# Altium schematic symbol library MCU_ST_STM32H7.SchLib: 225 symbols (part 6 of 9)
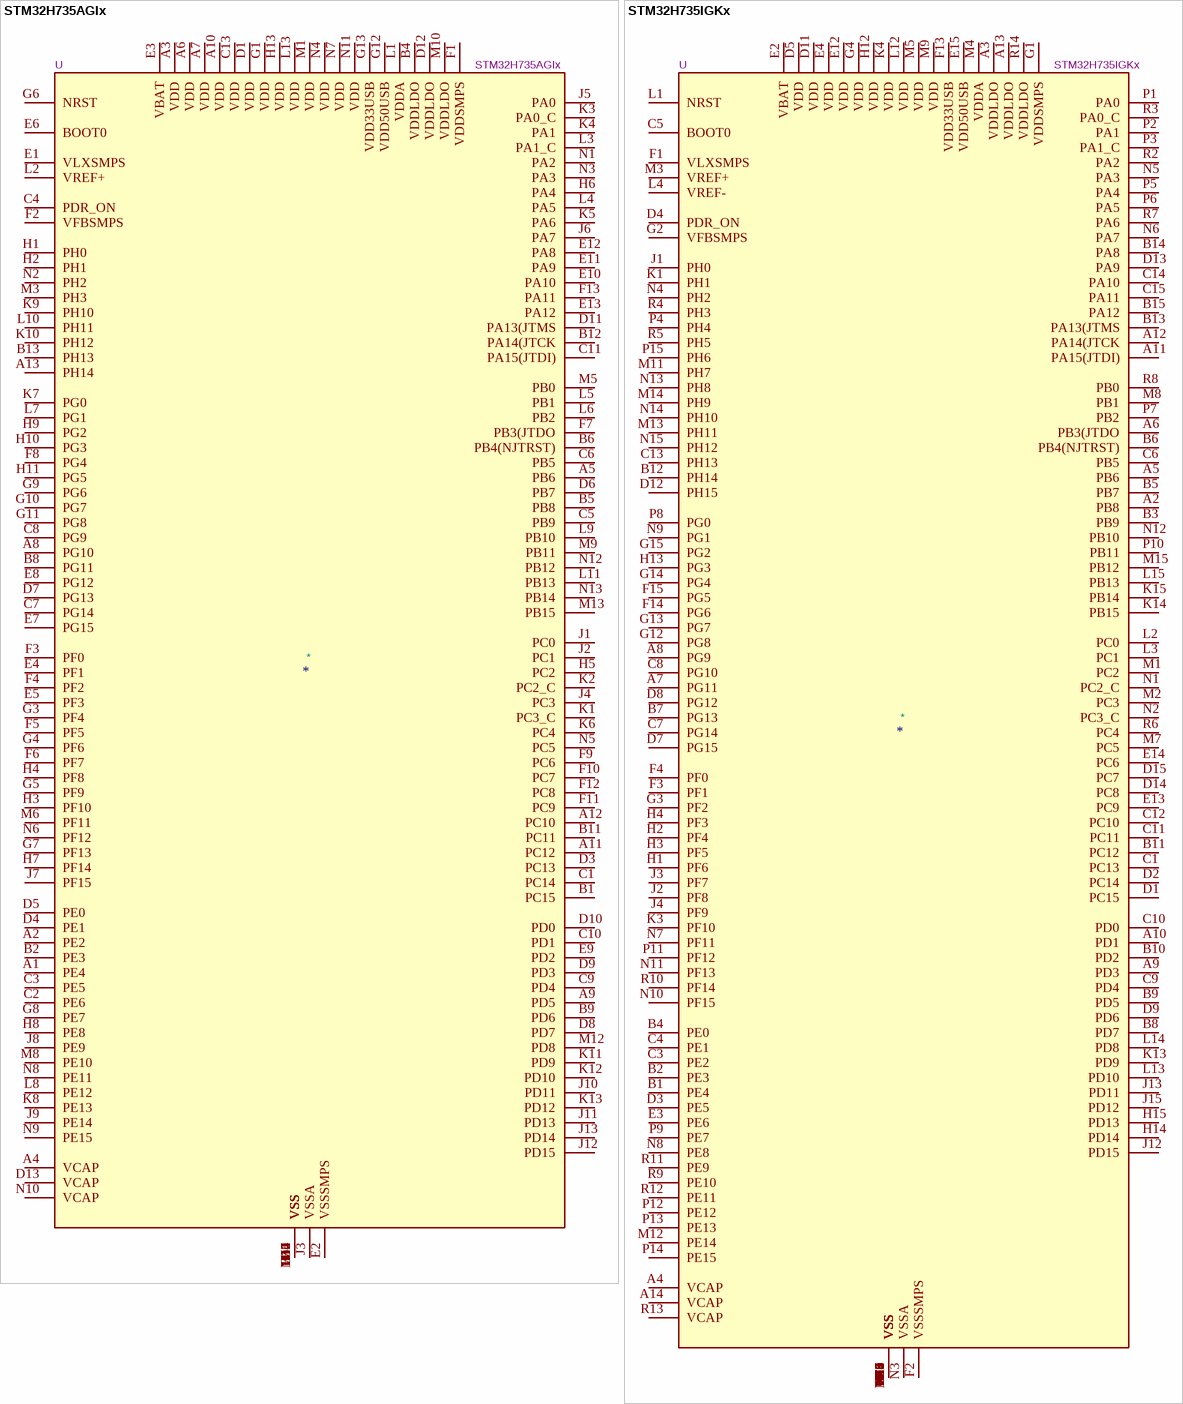
[diagram p92: symbols STM32H735AGIx to STM32H735IGKx]

## STM32H735IGKx
designator *  value STM32H735IGKx  Reference: U
STMicroelectronics Arm Cortex-M7 MCU, 1024KB flash, 564KB RAM, 550 MHz, 1.62-3.6V, 132 GPIO, UFBGA176; ki_keywords: Arm Cortex-M7 STM32H7 STM32H725/735; ki_fp_filters: UFBGA*10x10mm*Layout15x15*P0.65mm*; Footprint: Package_BGA:UFBGA-201_10x10mm_Layout15x15_P0.65mm; Datasheet: https://www.st.com/resource/en/datasheet/stm32h735ig.pdf; Description_: STMicroelectronics Arm Cortex-M7 MCU, 1024KB flash, 564KB RAM, 550 MHz, 1.62-3.6V, 132 GPIO, UFBGA176
pins: A1 VSS, A2 PB8, A3 VDDLDO, A4 VCAP, A5 PB6, A6 PB3(JTDO, A7 PG11, A8 PG9, A9 PD3, A10 PD1, A11 PA15(JTDI), A12 PA14(JTCK, A13 VDDLDO, A14 VCAP, A15 VSS, B1 PE4, B2 PE3, B3 PB9, B4 PE0, B5 PB7, B6 PB4(NJTRST), B7 PG13, B8 PD7, B9 PD5, B10 PD2, B11 PC12, B12 PH14, B13 PA13(JTMS, B14 PA8, B15 PA12, C1 PC13, C2 VSS, C3 PE2, C4 PE1, C5 BOOT0, C6 PB5, C7 PG14, C8 PG10, C9 PD4, C10 PD0, C11 PC11, C12 PC10, C13 PH13, C14 PA10, C15 PA11, D1 PC15, D2 PC14, D3 PE5, D4 PDR_ON, D5 VDD, D6 VSS, D7 PG15, D8 PG12, D9 PD6, D10 VSS, D11 VDD, D12 PH15, D13 PA9, D14 PC8, D15 PC7, E1 VSS, E2 VBAT, E3 PE6, E4 VDD, E12 VDD, E13 PC9, E14 PC6, E15 VDD50USB, F1 VLXSMPS, F2 VSSSMPS, F3 PF1, F4 PF0, F6 VSS, F7 VSS, F8 VSS, F9 VSS, F10 VSS, F12 VSS, F13 VDD33USB, F14 PG6, F15 PG5, G1 VDDSMPS, G2 VFBSMPS, G3 PF2, G4 VDD, G6 VSS, G7 VSS, G8 VSS, G9 VSS, G10 VSS, G12 PG8, G13 PG7, G14 PG4, G15 PG2, H1 PF6, H2 PF4, H3 PF5, H4 PF3, H6 VSS, H7 VSS, H8 VSS, H9 VSS, H10 VSS, H12 VDD, H13 PG3, H14 PD14, H15 PD13, J1 PH0, J2 PF8, J3 PF7, J4 PF9, J6 VSS, J7 VSS, J8 VSS, J9 VSS, J10 VSS, J12 PD15, J13 PD11, J14 VSS, J15 PD12, K1 PH1, K2 VSS, K3 PF10, K4 VDD, K6 VSS, K7 VSS, K8 VSS, K9 VSS, K10 VSS, K12 VSS, K13 PD9, K14 PB15, K15 PB14, L1 NRST, L2 PC0, L3 PC1, L4 VREF-, L12 VDD, L13 PD10, L14 PD8, L15 PB13, M1 PC2, M2 PC3, M3 VREF+, M4 VDDA, M5 VDD, M6 VSS, M7 PC5, M8 PB1, M9 VDD, M10 VSS, M11 PH7, M12 PE14, M13 PH11, M14 PH9, M15 PB12, N1 PC2_C, N2 PC3_C, N3 VSSA, N4 PH2, N5 PA3, N6 PA7, N7 PF11, N8 PE8, N9 PG1, N10 PF15, N11 PF13, N12 PB10, N13 PH8, N14 PH10, N15 PH12, P1 PA0, P2 PA1, P3 PA1_C, P4 PH4, P5 PA4, P6 PA5, P7 PB2, P8 PG0, P9 PE7, P10 PB11, P11 PF12, P12 PE12, P13 PE13, P14 PE15, P15 PH6, R1 VSS, R2 PA2, R3 PA0_C, R4 PH3, R5 PH5, R6 PC4, R7 PA6, R8 PB0, R9 PE10, R10 PF14, R11 PE9, R12 PE11, R13 VCAP, R14 VDDLDO, R15 VSS

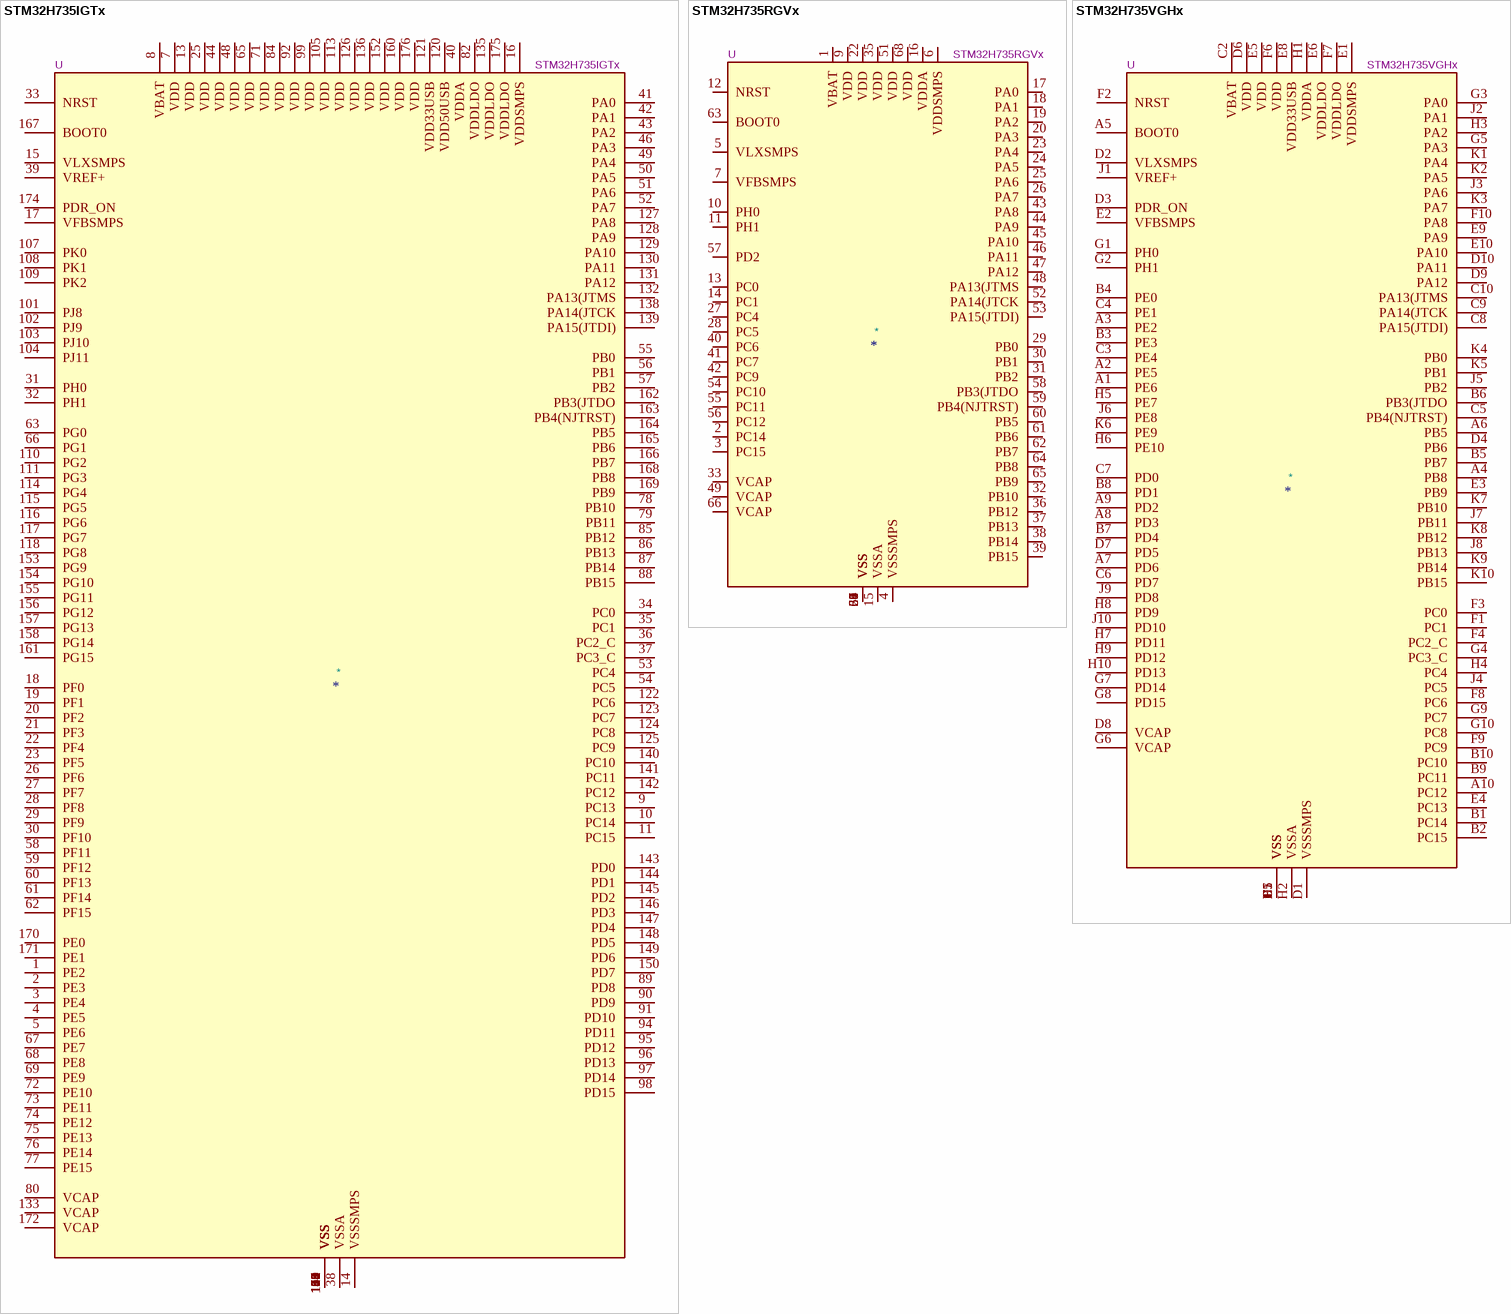
[diagram p53: symbols STM32H735IGTx to STM32H735VGHx]

## STM32H735IGTx
designator *  value STM32H735IGTx  Reference: U
STMicroelectronics Arm Cortex-M7 MCU, 1024KB flash, 564KB RAM, 550 MHz, 1.62-3.6V, 121 GPIO, LQFP176; ki_keywords: Arm Cortex-M7 STM32H7 STM32H725/735; ki_fp_filters: LQFP*24x24mm*P0.5mm*; Footprint: Package_QFP:LQFP-176_24x24mm_P0.5mm; Datasheet: https://www.st.com/resource/en/datasheet/stm32h735ig.pdf; Description_: STMicroelectronics Arm Cortex-M7 MCU, 1024KB flash, 564KB RAM, 550 MHz, 1.62-3.6V, 121 GPIO, LQFP176
pins: 1 PE2, 2 PE3, 3 PE4, 4 PE5, 5 PE6, 6 VSS, 7 VDD, 8 VBAT, 9 PC13, 10 PC14, 11 PC15, 12 VSS, 13 VDD, 14 VSSSMPS, 15 VLXSMPS, 16 VDDSMPS, 17 VFBSMPS, 18 PF0, 19 PF1, 20 PF2, 21 PF3, 22 PF4, 23 PF5, 24 VSS, 25 VDD, 26 PF6, 27 PF7, 28 PF8, 29 PF9, 30 PF10, 31 PH0, 32 PH1, 33 NRST, 34 PC0, 35 PC1, 36 PC2_C, 37 PC3_C, 38 VSSA, 39 VREF+, 40 VDDA, 41 PA0, 42 PA1, 43 PA2, 44 VDD, 45 VSS, 46 PA3, 47 VSS, 48 VDD, 49 PA4, 50 PA5, 51 PA6, 52 PA7, 53 PC4, 54 PC5, 55 PB0, 56 PB1, 57 PB2, 58 PF11, 59 PF12, 60 PF13, 61 PF14, 62 PF15, 63 PG0, 64 VSS, 65 VDD, 66 PG1, 67 PE7, 68 PE8, 69 PE9, 70 VSS, 71 VDD, 72 PE10, 73 PE11, 74 PE12, 75 PE13, 76 PE14, 77 PE15, 78 PB10, 79 PB11, 80 VCAP, 81 VSS, 82 VDDLDO, 83 VSS, 84 VDD, 85 PB12, 86 PB13, 87 PB14, 88 PB15, 89 PD8, 90 PD9, 91 PD10, 92 VDD, 93 VSS, 94 PD11, 95 PD12, 96 PD13, 97 PD14, 98 PD15, 99 VDD, 100 VSS, 101 PJ8, 102 PJ9, 103 PJ10, 104 PJ11, 105 VDD, 106 VSS, 107 PK0, 108 PK1, 109 PK2, 110 PG2, 111 PG3, 112 VSS, 113 VDD, 114 PG4, 115 PG5, 116 PG6, 117 PG7, 118 PG8, 119 VSS, 120 VDD50USB, 121 VDD33USB, 122 PC6, 123 PC7, 124 PC8, 125 PC9, 126 VDD, 127 PA8, 128 PA9, 129 PA10, 130 PA11, 131 PA12, 132 PA13(JTMS, 133 VCAP, 134 VSS, 135 VDDLDO, 136 VDD, 137 VSS, 138 PA14(JTCK, 139 PA15(JTDI), 140 PC10, 141 PC11, 142 PC12, 143 PD0, 144 PD1, 145 PD2, 146 PD3, 147 PD4, 148 PD5, 149 PD6, 150 PD7, 151 VSS, 152 VDD, 153 PG9, 154 PG10, 155 PG11, 156 PG12, 157 PG13, 158 PG14, 159 VSS, 160 VDD, 161 PG15, 162 PB3(JTDO, 163 PB4(NJTRST), 164 PB5, 165 PB6, 166 PB7, 167 BOOT0, 168 PB8, 169 PB9, 170 PE0, 171 PE1, 172 VCAP, 173 VSS, 174 PDR_ON, 175 VDDLDO, 176 VDD

## STM32H735RGVx
designator *  value STM32H735RGVx  Reference: U
STMicroelectronics Arm Cortex-M7 MCU, 1024KB flash, 564KB RAM, 550 MHz, 1.71-3.6V, 46 GPIO, VFQFPN68; ki_keywords: Arm Cortex-M7 STM32H7 STM32H725/735; ki_fp_filters: QFN*1EP*8x8mm*P0.4mm*; Footprint: Package_DFN_QFN:QFN-68-1EP_8x8mm_P0.4mm_EP6.4x6.4mm; Datasheet: https://www.st.com/resource/en/datasheet/stm32h735rg.pdf; Description_: STMicroelectronics Arm Cortex-M7 MCU, 1024KB flash, 564KB RAM, 550 MHz, 1.71-3.6V, 46 GPIO, VFQFPN68
pins: 1 VBAT, 2 PC14, 3 PC15, 4 VSSSMPS, 5 VLXSMPS, 6 VDDSMPS, 7 VFBSMPS, 8 VSS, 9 VDD, 10 PH0, 11 PH1, 12 NRST, 13 PC0, 14 PC1, 15 VSSA, 16 VDDA, 17 PA0, 18 PA1, 19 PA2, 20 PA3, 21 VSS, 22 VDD, 23 PA4, 24 PA5, 25 PA6, 26 PA7, 27 PC4, 28 PC5, 29 PB0, 30 PB1, 31 PB2, 32 PB10, 33 VCAP, 34 VSS, 35 VDD, 36 PB12, 37 PB13, 38 PB14, 39 PB15, 40 PC6, 41 PC7, 42 PC9, 43 PA8, 44 PA9, 45 PA10, 46 PA11, 47 PA12, 48 PA13(JTMS, 49 VCAP, 50 VSS, 51 VDD, 52 PA14(JTCK, 53 PA15(JTDI), 54 PC10, 55 PC11, 56 PC12, 57 PD2, 58 PB3(JTDO, 59 PB4(NJTRST), 60 PB5, 61 PB6, 62 PB7, 63 BOOT0, 64 PB8, 65 PB9, 66 VCAP, 67 VSS, 68 VDD, 69 VSS

## STM32H735VGHx
designator *  value STM32H735VGHx  Reference: U
STMicroelectronics Arm Cortex-M7 MCU, 1024KB flash, 564KB RAM, 550 MHz, 1.62-3.6V, 77 GPIO, TFBGA100; ki_keywords: Arm Cortex-M7 STM32H7 STM32H725/735; ki_fp_filters: TFBGA*8x8mm*Layout10x10*P0.8mm*; Footprint: Package_BGA:TFBGA-100_8x8mm_Layout10x10_P0.8mm; Datasheet: https://www.st.com/resource/en/datasheet/stm32h735vg.pdf; Description_: STMicroelectronics Arm Cortex-M7 MCU, 1024KB flash, 564KB RAM, 550 MHz, 1.62-3.6V, 77 GPIO, TFBGA100
pins: A1 PE6, A2 PE5, A3 PE2, A4 PB8, A5 BOOT0, A6 PB5, A7 PD6, A8 PD3, A9 PD2, A10 PC12, B1 PC14, B2 PC15, B3 PE3, B4 PE0, B5 PB7, B6 PB3(JTDO, B7 PD4, B8 PD1, B9 PC11, B10 PC10, C1 VSS, C2 VBAT, C3 PE4, C4 PE1, C5 PB4(NJTRST), C6 PD7, C7 PD0, C8 PA15(JTDI), C9 PA14(JTCK, C10 PA13(JTMS, D1 VSSSMPS, D2 VLXSMPS, D3 PDR_ON, D4 PB6, D5 VSS, D6 VDD, D7 PD5, D8 VCAP, D9 PA12, D10 PA11, E1 VDDSMPS, E2 VFBSMPS, E3 PB9, E4 PC13, E5 VDD, E6 VDDLDO, E7 VSS, E8 VDD33USB, E9 PA9, E10 PA10, F1 PC1, F2 NRST, F3 PC0, F4 PC2_C, F5 VSS, F6 VDD, F7 VDDLDO, F8 PC6, F9 PC9, F10 PA8, G1 PH0, G2 PH1, G3 PA0, G4 PC3_C, G5 PA3, G6 VCAP, G7 PD14, G8 PD15, G9 PC7, G10 PC8, H1 VDDA, H2 VSSA, H3 PA2, H4 PC4, H5 PE7, H6 PE10, H7 PD11, H8 PD9, H9 PD12, H10 PD13, J1 VREF+, J2 PA1, J3 PA6, J4 PC5, J5 PB2, J6 PE8, J7 PB11, J8 PB13, J9 PD8, J10 PD10, K1 PA4, K2 PA5, K3 PA7, K4 PB0, K5 PB1, K6 PE9, K7 PB10, K8 PB12, K9 PB14, K10 PB15

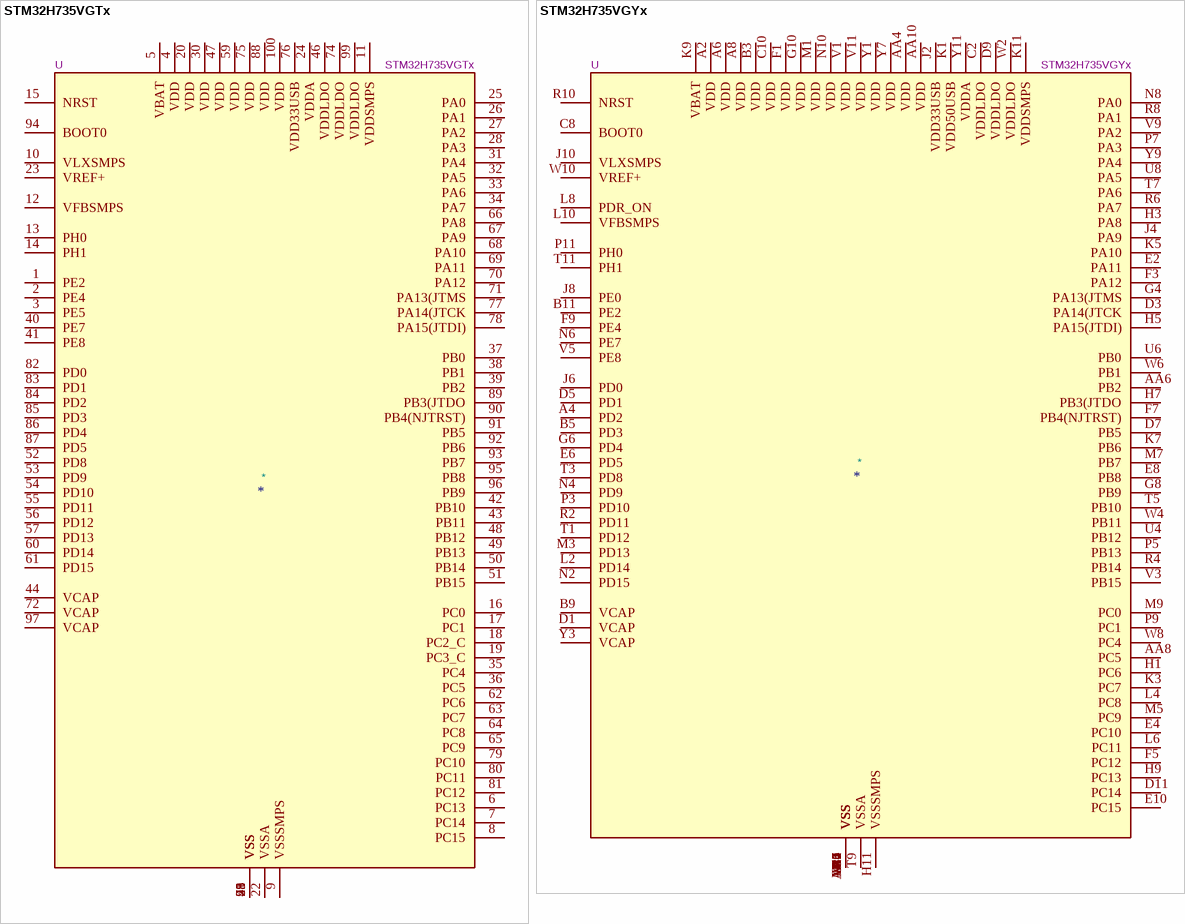
[diagram p54: symbols STM32H735VGTx to STM32H735VGYx]

## STM32H735VGTx
designator *  value STM32H735VGTx  Reference: U
STMicroelectronics Arm Cortex-M7 MCU, 1024KB flash, 564KB RAM, 550 MHz, 1.71-3.6V, 69 GPIO, LQFP100; ki_keywords: Arm Cortex-M7 STM32H7 STM32H725/735; ki_fp_filters: LQFP*14x14mm*P0.5mm*; Footprint: Package_QFP:LQFP-100_14x14mm_P0.5mm; Datasheet: https://www.st.com/resource/en/datasheet/stm32h735vg.pdf; Description_: STMicroelectronics Arm Cortex-M7 MCU, 1024KB flash, 564KB RAM, 550 MHz, 1.71-3.6V, 69 GPIO, LQFP100
pins: 1 PE2, 2 PE4, 3 PE5, 4 VDD, 5 VBAT, 6 PC13, 7 PC14, 8 PC15, 9 VSSSMPS, 10 VLXSMPS, 11 VDDSMPS, 12 VFBSMPS, 13 PH0, 14 PH1, 15 NRST, 16 PC0, 17 PC1, 18 PC2_C, 19 PC3_C, 20 VDD, 21 VSS, 22 VSSA, 23 VREF+, 24 VDDA, 25 PA0, 26 PA1, 27 PA2, 28 PA3, 29 VSS, 30 VDD, 31 PA4, 32 PA5, 33 PA6, 34 PA7, 35 PC4, 36 PC5, 37 PB0, 38 PB1, 39 PB2, 40 PE7, 41 PE8, 42 PB10, 43 PB11, 44 VCAP, 45 VSS, 46 VDDLDO, 47 VDD, 48 PB12, 49 PB13, 50 PB14, 51 PB15, 52 PD8, 53 PD9, 54 PD10, 55 PD11, 56 PD12, 57 PD13, 58 VSS, 59 VDD, 60 PD14, 61 PD15, 62 PC6, 63 PC7, 64 PC8, 65 PC9, 66 PA8, 67 PA9, 68 PA10, 69 PA11, 70 PA12, 71 PA13(JTMS, 72 VCAP, 73 VSS, 74 VDDLDO, 75 VDD, 76 VDD33USB, 77 PA14(JTCK, 78 PA15(JTDI), 79 PC10, 80 PC11, 81 PC12, 82 PD0, 83 PD1, 84 PD2, 85 PD3, 86 PD4, 87 PD5, 88 VDD, 89 PB3(JTDO, 90 PB4(NJTRST), 91 PB5, 92 PB6, 93 PB7, 94 BOOT0, 95 PB8, 96 PB9, 97 VCAP, 98 VSS, 99 VDDLDO, 100 VDD

## STM32H735VGYx
designator *  value STM32H735VGYx  Reference: U
STMicroelectronics Arm Cortex-M7 MCU, 1024KB flash, 564KB RAM, 550 MHz, 1.62-3.6V, 67 GPIO, WLCSP115; ki_keywords: Arm Cortex-M7 STM32H7 STM32H725/735; ki_fp_filters: ST*WLCSP*3.73x4.15mm*Layout11x21*P0.35mm*Stagger*; Footprint: Package_CSP:ST_WLCSP-115_3.73x4.15mm_Layout11x21_P0.35mm_Stagger; Datasheet: https://www.st.com/resource/en/datasheet/stm32h735vg.pdf; Description_: STMicroelectronics Arm Cortex-M7 MCU, 1024KB flash, 564KB RAM, 550 MHz, 1.62-3.6V, 67 GPIO, WLCSP115
pins: A2 VDD, A4 PD2, A6 VDD, A8 VDD, A10 VSS, AA2 VSS, AA4 VDD, AA6 PB2, AA8 PC5, AA10 VDD, B1 VSS, B3 VDD, B5 PD3, B7 VSS, B9 VCAP, B11 PE2, C2 VDDLDO, C4 VSS, C6 VSS, C8 BOOT0, C10 VDD, D1 VCAP, D3 PA14(JTCK, D5 PD1, D7 PB5, D9 VDDLDO, D11 PC14, E2 PA11, E4 PC10, E6 PD5, E8 PB8, E10 PC15, F1 VDD, F3 PA12, F5 PC12, F7 PB4(NJTRST), F9 PE4, F11 VSS, G2 VSS, G4 PA13(JTMS, G6 PD4, G8 PB9, G10 VDD, H1 PC6, H3 PA8, H5 PA15(JTDI), H7 PB3(JTDO, H9 PC13, H11 VSSSMPS, J2 VDD33USB, J4 PA9, J6 PD0, J8 PE0, J10 VLXSMPS, K1 VDD50USB, K3 PC7, K5 PA10, K7 PB6, K9 VBAT, K11 VDDSMPS, L2 PD14, L4 PC8, L6 PC11, L8 PDR_ON, L10 VFBSMPS, M1 VDD, M3 PD13, M5 PC9, M7 PB7, M9 PC0, M11 VSS, N2 PD15, N4 PD9, N6 PE7, N8 PA0, N10 VDD, P1 VSS, P3 PD10, P5 PB13, P7 PA3, P9 PC1, P11 PH0, R2 PD11, R4 PB14, R6 PA7, R8 PA1, R10 NRST, T1 PD12, T3 PD8, T5 PB10, T7 PA6, T9 VSSA, T11 PH1, U2 VSS, U4 PB12, U6 PB0, U8 PA5, U10 VSS, V1 VDD, V3 PB15, V5 PE8, V7 VSS, V9 PA2, V11 VDD, W2 VDDLDO, W4 PB11, W6 PB1, W8 PC4, W10 VREF+, Y1 VDD, Y3 VCAP, Y5 VSS, Y7 VDD, Y9 PA4, Y11 VDDA

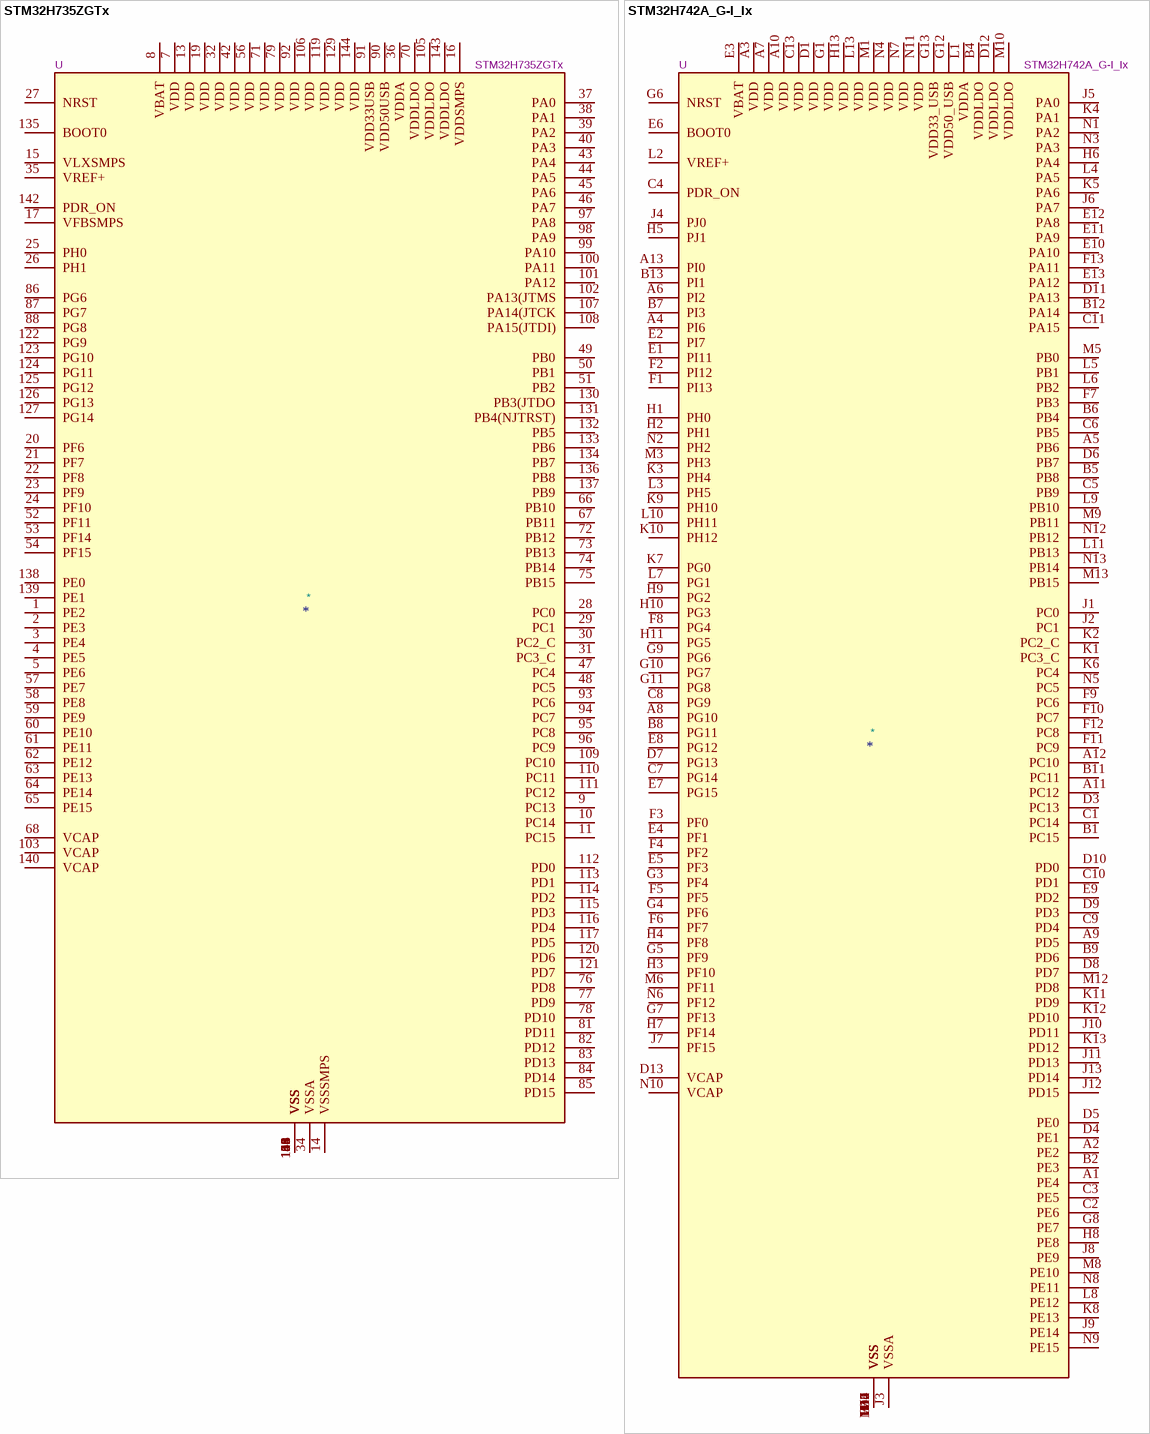
[diagram p55: symbols STM32H735ZGTx to STM32H742A_G-I_Ix]

## STM32H735ZGTx
designator *  value STM32H735ZGTx  Reference: U
STMicroelectronics Arm Cortex-M7 MCU, 1024KB flash, 564KB RAM, 550 MHz, 1.62-3.6V, 99 GPIO, LQFP144; ki_keywords: Arm Cortex-M7 STM32H7 STM32H725/735; ki_fp_filters: LQFP*20x20mm*P0.5mm*; Footprint: Package_QFP:LQFP-144_20x20mm_P0.5mm; Datasheet: https://www.st.com/resource/en/datasheet/stm32h735zg.pdf; Description_: STMicroelectronics Arm Cortex-M7 MCU, 1024KB flash, 564KB RAM, 550 MHz, 1.62-3.6V, 99 GPIO, LQFP144
pins: 1 PE2, 2 PE3, 3 PE4, 4 PE5, 5 PE6, 6 VSS, 7 VDD, 8 VBAT, 9 PC13, 10 PC14, 11 PC15, 12 VSS, 13 VDD, 14 VSSSMPS, 15 VLXSMPS, 16 VDDSMPS, 17 VFBSMPS, 18 VSS, 19 VDD, 20 PF6, 21 PF7, 22 PF8, 23 PF9, 24 PF10, 25 PH0, 26 PH1, 27 NRST, 28 PC0, 29 PC1, 30 PC2_C, 31 PC3_C, 32 VDD, 33 VSS, 34 VSSA, 35 VREF+, 36 VDDA, 37 PA0, 38 PA1, 39 PA2, 40 PA3, 41 VSS, 42 VDD, 43 PA4, 44 PA5, 45 PA6, 46 PA7, 47 PC4, 48 PC5, 49 PB0, 50 PB1, 51 PB2, 52 PF11, 53 PF14, 54 PF15, 55 VSS, 56 VDD, 57 PE7, 58 PE8, 59 PE9, 60 PE10, 61 PE11, 62 PE12, 63 PE13, 64 PE14, 65 PE15, 66 PB10, 67 PB11, 68 VCAP, 69 VSS, 70 VDDLDO, 71 VDD, 72 PB12, 73 PB13, 74 PB14, 75 PB15, 76 PD8, 77 PD9, 78 PD10, 79 VDD, 80 VSS, 81 PD11, 82 PD12, 83 PD13, 84 PD14, 85 PD15, 86 PG6, 87 PG7, 88 PG8, 89 VSS, 90 VDD50USB, 91 VDD33USB, 92 VDD, 93 PC6, 94 PC7, 95 PC8, 96 PC9, 97 PA8, 98 PA9, 99 PA10, 100 PA11, 101 PA12, 102 PA13(JTMS, 103 VCAP, 104 VSS, 105 VDDLDO, 106 VDD, 107 PA14(JTCK, 108 PA15(JTDI), 109 PC10, 110 PC11, 111 PC12, 112 PD0, 113 PD1, 114 PD2, 115 PD3, 116 PD4, 117 PD5, 118 VSS, 119 VDD, 120 PD6, 121 PD7, 122 PG9, 123 PG10, 124 PG11, 125 PG12, 126 PG13, 127 PG14, 128 VSS, 129 VDD, 130 PB3(JTDO, 131 PB4(NJTRST), 132 PB5, 133 PB6, 134 PB7, 135 BOOT0, 136 PB8, 137 PB9, 138 PE0, 139 PE1, 140 VCAP, 141 VSS, 142 PDR_ON, 143 VDDLDO, 144 VDD

## STM32H742A_G-I_Ix
designator *  value STM32H742A_G-I_Ix  Reference: U
STMicroelectronics Arm Cortex-M7 MCU, 1024-2048KB flash, 692KB RAM, 480 MHz, 1.62-3.6V, 132 GPIO, UFBGA169; ki_keywords: Arm Cortex-M7 STM32H7 STM32H742; ki_fp_filters: UFBGA*7x7mm*Layout13x13*P0.5mm*; Footprint: Package_BGA:UFBGA-169_7x7mm_Layout13x13_P0.5mm; Datasheet: https://www.st.com/resource/en/datasheet/stm32h742ag.pdf; Description_: STMicroelectronics Arm Cortex-M7 MCU, 1024-2048KB flash, 692KB RAM, 480 MHz, 1.62-3.6V, 132 GPIO, UFBGA169
pins: A1 PE4, A2 PE2, A3 VDD, A4 PI6, A5 PB6, A6 PI2, A7 VDD, A8 PG10, A9 PD5, A10 VDD, A11 PC12, A12 PC10, A13 PI0, B1 PC15, B2 PE3, B3 VSS, B4 VDDLDO, B5 PB8, B6 PB4, B7 PI3, B8 PG11, B9 PD6, B10 VSS, B11 PC11, B12 PA14, B13 PI1, C1 PC14, C2 PE6, C3 PE5, C4 PDR_ON, C5 PB9, C6 PB5, C7 PG14, C8 PG9, C9 PD4, C10 PD1, C11 PA15, C12 VSS, C13 VDD, D1 VDD, D2 VSS, D3 PC13, D4 PE1, D5 PE0, D6 PB7, D7 PG13, D8 PD7, D9 PD3, D10 PD0, D11 PA13, D12 VDDLDO, D13 VCAP, E1 PI11, E2 PI7, E3 VBAT, E4 PF1, E5 PF3, E6 BOOT0, E7 PG15, E8 PG12, E9 PD2, E10 PA10, E11 PA9, E12 PA8, E13 PA12, F1 PI13, F2 PI12, F3 PF0, F4 PF2, F5 PF5, F6 PF7, F7 PB3, F8 PG4, F9 PC6, F10 PC7, F11 PC9, F12 PC8, F13 PA11, G1 VDD, G2 VSS, G3 PF4, G4 PF6, G5 PF9, G6 NRST, G7 PF13, G8 PE7, G9 PG6, G10 PG7, G11 PG8, G12 VDD50_USB, G13 VDD33_USB, H1 PH0, H2 PH1, H3 PF10, H4 PF8, H5 PJ1, H6 PA4, H7 PF14, H8 PE8, H9 PG2, H10 PG3, H11 PG5, H12 VSS, H13 VDD, J1 PC0, J2 PC1, J3 VSSA, J4 PJ0, J5 PA0, J6 PA7, J7 PF15, J8 PE9, J9 PE14, J10 PD11, J11 PD13, J12 PD15, J13 PD14, K1 PC3_C, K2 PC2_C, K3 PH4, K4 PA1, K5 PA6, K6 PC4, K7 PG0, K8 PE13, K9 PH10, K10 PH12, K11 PD9, K12 PD10, K13 PD12, L1 VDDA, L2 VREF+, L3 PH5, L4 PA5, L5 PB1, L6 PB2, L7 PG1, L8 PE12, L9 PB10, L10 PH11, L11 PB13, L12 VSS, L13 VDD, M1 VDD, M2 VSS, M3 PH3, M4 VSS, M5 PB0, M6 PF11, M7 VSS, M8 PE10, M9 PB11, M10 VDDLDO, M11 VSS, M12 PD8, M13 PB15, N1 PA2, N2 PH2, N3 PA3, N4 VDD, N5 PC5, N6 PF12, N7 VDD, N8 PE11, N9 PE15, N10 VCAP, N11 VDD, N12 PB12, N13 PB14

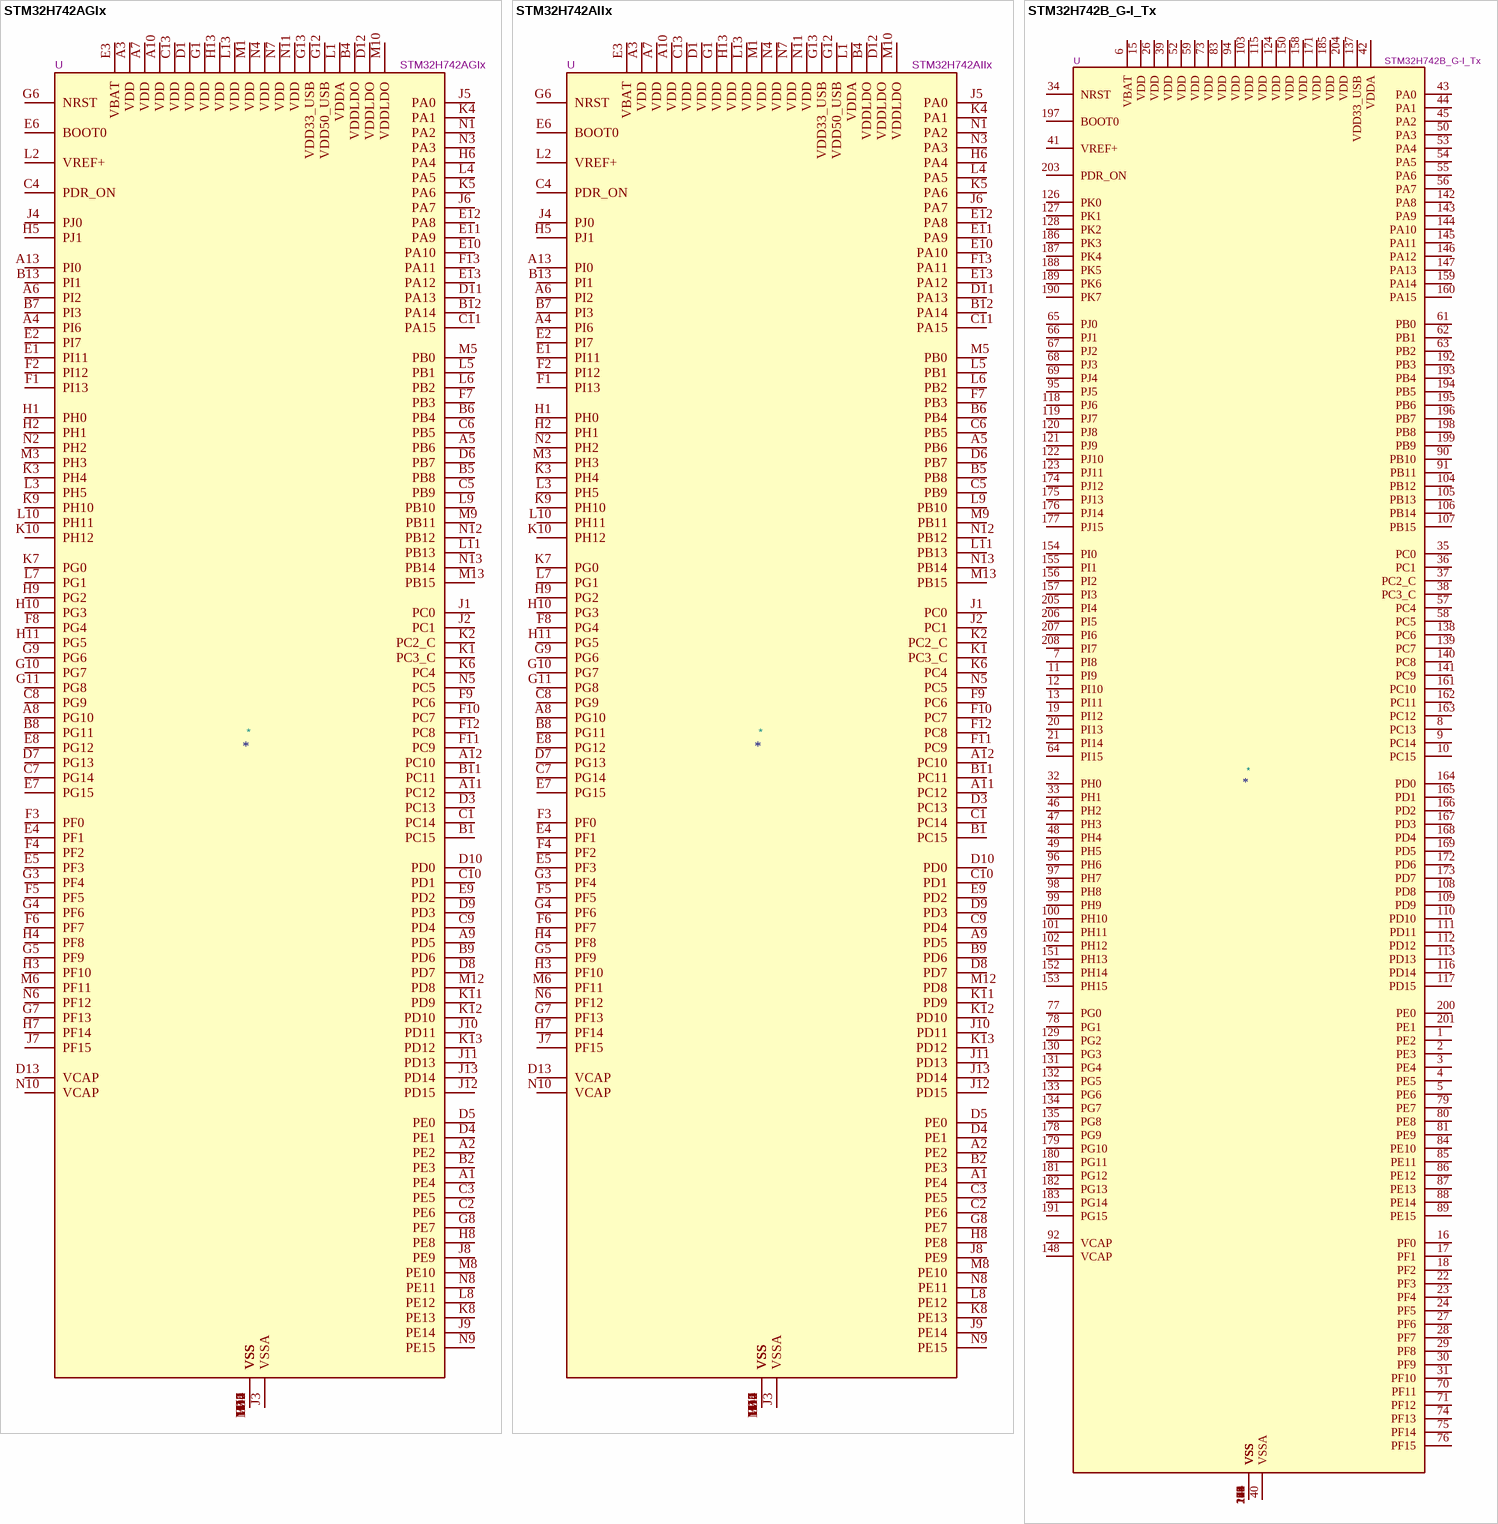
[diagram p56: symbols STM32H742AGIx to STM32H742B_G-I_Tx]

## STM32H742AGIx
designator *  value STM32H742AGIx  Reference: U
STMicroelectronics Arm Cortex-M7 MCU, 1024KB flash, 692KB RAM, 480 MHz, 1.62-3.6V, 132 GPIO, UFBGA169; ki_keywords: Arm Cortex-M7 STM32H7 STM32H742; ki_fp_filters: UFBGA*7x7mm*Layout13x13*P0.5mm*; Footprint: Package_BGA:UFBGA-169_7x7mm_Layout13x13_P0.5mm; Datasheet: https://www.st.com/resource/en/datasheet/stm32h742ag.pdf; Description_: STMicroelectronics Arm Cortex-M7 MCU, 1024KB flash, 692KB RAM, 480 MHz, 1.62-3.6V, 132 GPIO, UFBGA169
pins: A1 PE4, A2 PE2, A3 VDD, A4 PI6, A5 PB6, A6 PI2, A7 VDD, A8 PG10, A9 PD5, A10 VDD, A11 PC12, A12 PC10, A13 PI0, B1 PC15, B2 PE3, B3 VSS, B4 VDDLDO, B5 PB8, B6 PB4, B7 PI3, B8 PG11, B9 PD6, B10 VSS, B11 PC11, B12 PA14, B13 PI1, C1 PC14, C2 PE6, C3 PE5, C4 PDR_ON, C5 PB9, C6 PB5, C7 PG14, C8 PG9, C9 PD4, C10 PD1, C11 PA15, C12 VSS, C13 VDD, D1 VDD, D2 VSS, D3 PC13, D4 PE1, D5 PE0, D6 PB7, D7 PG13, D8 PD7, D9 PD3, D10 PD0, D11 PA13, D12 VDDLDO, D13 VCAP, E1 PI11, E2 PI7, E3 VBAT, E4 PF1, E5 PF3, E6 BOOT0, E7 PG15, E8 PG12, E9 PD2, E10 PA10, E11 PA9, E12 PA8, E13 PA12, F1 PI13, F2 PI12, F3 PF0, F4 PF2, F5 PF5, F6 PF7, F7 PB3, F8 PG4, F9 PC6, F10 PC7, F11 PC9, F12 PC8, F13 PA11, G1 VDD, G2 VSS, G3 PF4, G4 PF6, G5 PF9, G6 NRST, G7 PF13, G8 PE7, G9 PG6, G10 PG7, G11 PG8, G12 VDD50_USB, G13 VDD33_USB, H1 PH0, H2 PH1, H3 PF10, H4 PF8, H5 PJ1, H6 PA4, H7 PF14, H8 PE8, H9 PG2, H10 PG3, H11 PG5, H12 VSS, H13 VDD, J1 PC0, J2 PC1, J3 VSSA, J4 PJ0, J5 PA0, J6 PA7, J7 PF15, J8 PE9, J9 PE14, J10 PD11, J11 PD13, J12 PD15, J13 PD14, K1 PC3_C, K2 PC2_C, K3 PH4, K4 PA1, K5 PA6, K6 PC4, K7 PG0, K8 PE13, K9 PH10, K10 PH12, K11 PD9, K12 PD10, K13 PD12, L1 VDDA, L2 VREF+, L3 PH5, L4 PA5, L5 PB1, L6 PB2, L7 PG1, L8 PE12, L9 PB10, L10 PH11, L11 PB13, L12 VSS, L13 VDD, M1 VDD, M2 VSS, M3 PH3, M4 VSS, M5 PB0, M6 PF11, M7 VSS, M8 PE10, M9 PB11, M10 VDDLDO, M11 VSS, M12 PD8, M13 PB15, N1 PA2, N2 PH2, N3 PA3, N4 VDD, N5 PC5, N6 PF12, N7 VDD, N8 PE11, N9 PE15, N10 VCAP, N11 VDD, N12 PB12, N13 PB14

## STM32H742AIIx
designator *  value STM32H742AIIx  Reference: U
STMicroelectronics Arm Cortex-M7 MCU, 2048KB flash, 692KB RAM, 480 MHz, 1.62-3.6V, 132 GPIO, UFBGA169; ki_keywords: Arm Cortex-M7 STM32H7 STM32H742; ki_fp_filters: UFBGA*7x7mm*Layout13x13*P0.5mm*; Footprint: Package_BGA:UFBGA-169_7x7mm_Layout13x13_P0.5mm; Datasheet: https://www.st.com/resource/en/datasheet/stm32h742ai.pdf; Description_: STMicroelectronics Arm Cortex-M7 MCU, 2048KB flash, 692KB RAM, 480 MHz, 1.62-3.6V, 132 GPIO, UFBGA169
pins: A1 PE4, A2 PE2, A3 VDD, A4 PI6, A5 PB6, A6 PI2, A7 VDD, A8 PG10, A9 PD5, A10 VDD, A11 PC12, A12 PC10, A13 PI0, B1 PC15, B2 PE3, B3 VSS, B4 VDDLDO, B5 PB8, B6 PB4, B7 PI3, B8 PG11, B9 PD6, B10 VSS, B11 PC11, B12 PA14, B13 PI1, C1 PC14, C2 PE6, C3 PE5, C4 PDR_ON, C5 PB9, C6 PB5, C7 PG14, C8 PG9, C9 PD4, C10 PD1, C11 PA15, C12 VSS, C13 VDD, D1 VDD, D2 VSS, D3 PC13, D4 PE1, D5 PE0, D6 PB7, D7 PG13, D8 PD7, D9 PD3, D10 PD0, D11 PA13, D12 VDDLDO, D13 VCAP, E1 PI11, E2 PI7, E3 VBAT, E4 PF1, E5 PF3, E6 BOOT0, E7 PG15, E8 PG12, E9 PD2, E10 PA10, E11 PA9, E12 PA8, E13 PA12, F1 PI13, F2 PI12, F3 PF0, F4 PF2, F5 PF5, F6 PF7, F7 PB3, F8 PG4, F9 PC6, F10 PC7, F11 PC9, F12 PC8, F13 PA11, G1 VDD, G2 VSS, G3 PF4, G4 PF6, G5 PF9, G6 NRST, G7 PF13, G8 PE7, G9 PG6, G10 PG7, G11 PG8, G12 VDD50_USB, G13 VDD33_USB, H1 PH0, H2 PH1, H3 PF10, H4 PF8, H5 PJ1, H6 PA4, H7 PF14, H8 PE8, H9 PG2, H10 PG3, H11 PG5, H12 VSS, H13 VDD, J1 PC0, J2 PC1, J3 VSSA, J4 PJ0, J5 PA0, J6 PA7, J7 PF15, J8 PE9, J9 PE14, J10 PD11, J11 PD13, J12 PD15, J13 PD14, K1 PC3_C, K2 PC2_C, K3 PH4, K4 PA1, K5 PA6, K6 PC4, K7 PG0, K8 PE13, K9 PH10, K10 PH12, K11 PD9, K12 PD10, K13 PD12, L1 VDDA, L2 VREF+, L3 PH5, L4 PA5, L5 PB1, L6 PB2, L7 PG1, L8 PE12, L9 PB10, L10 PH11, L11 PB13, L12 VSS, L13 VDD, M1 VDD, M2 VSS, M3 PH3, M4 VSS, M5 PB0, M6 PF11, M7 VSS, M8 PE10, M9 PB11, M10 VDDLDO, M11 VSS, M12 PD8, M13 PB15, N1 PA2, N2 PH2, N3 PA3, N4 VDD, N5 PC5, N6 PF12, N7 VDD, N8 PE11, N9 PE15, N10 VCAP, N11 VDD, N12 PB12, N13 PB14

## STM32H742B_G-I_Tx
designator *  value STM32H742B_G-I_Tx  Reference: U
STMicroelectronics Arm Cortex-M7 MCU, 1024-2048KB flash, 692KB RAM, 480 MHz, 1.62-3.6V, 168 GPIO, LQFP208; ki_keywords: Arm Cortex-M7 STM32H7 STM32H742; ki_fp_filters: LQFP*28x28mm*P0.5mm*; Footprint: Package_QFP:LQFP-208_28x28mm_P0.5mm; Datasheet: https://www.st.com/resource/en/datasheet/stm32h742bg.pdf; Description_: STMicroelectronics Arm Cortex-M7 MCU, 1024-2048KB flash, 692KB RAM, 480 MHz, 1.62-3.6V, 168 GPIO, LQFP208
pins: 1 PE2, 2 PE3, 3 PE4, 4 PE5, 5 PE6, 6 VBAT, 7 PI8, 8 PC13, 9 PC14, 10 PC15, 11 PI9, 12 PI10, 13 PI11, 14 VSS, 15 VDD, 16 PF0, 17 PF1, 18 PF2, 19 PI12, 20 PI13, 21 PI14, 22 PF3, 23 PF4, 24 PF5, 25 VSS, 26 VDD, 27 PF6, 28 PF7, 29 PF8, 30 PF9, 31 PF10, 32 PH0, 33 PH1, 34 NRST, 35 PC0, 36 PC1, 37 PC2_C, 38 PC3_C, 39 VDD, 40 VSSA, 41 VREF+, 42 VDDA, 43 PA0, 44 PA1, 45 PA2, 46 PH2, 47 PH3, 48 PH4, 49 PH5, 50 PA3, 51 VSS, 52 VDD, 53 PA4, 54 PA5, 55 PA6, 56 PA7, 57 PC4, 58 PC5, 59 VDD, 60 VSS, 61 PB0, 62 PB1, 63 PB2, 64 PI15, 65 PJ0, 66 PJ1, 67 PJ2, 68 PJ3, 69 PJ4, 70 PF11, 71 PF12, 72 VSS, 73 VDD, 74 PF13, 75 PF14, 76 PF15, 77 PG0, 78 PG1, 79 PE7, 80 PE8, 81 PE9, 82 VSS, 83 VDD, 84 PE10, 85 PE11, 86 PE12, 87 PE13, 88 PE14, 89 PE15, 90 PB10, 91 PB11, 92 VCAP, 93 VSS, 94 VDD, 95 PJ5, 96 PH6, 97 PH7, 98 PH8, 99 PH9, 100 PH10, 101 PH11, 102 PH12, 103 VDD, 104 PB12, 105 PB13, 106 PB14, 107 PB15, 108 PD8, 109 PD9, 110 PD10, 111 PD11, 112 PD12, 113 PD13, 114 VSS, 115 VDD, 116 PD14, 117 PD15, 118 PJ6, 119 PJ7, 120 PJ8, 121 PJ9, 122 PJ10, 123 PJ11, 124 VDD, 125 VSS, 126 PK0, 127 PK1, 128 PK2, 129 PG2, 130 PG3, 131 PG4, 132 PG5, 133 PG6, 134 PG7, 135 PG8, 136 VSS, 137 VDD33_USB, 138 PC6, 139 PC7, 140 PC8, 141 PC9, 142 PA8, 143 PA9, 144 PA10, 145 PA11, 146 PA12, 147 PA13, 148 VCAP, 149 VSS, 150 VDD, 151 PH13, 152 PH14, 153 PH15, 154 PI0, 155 PI1, 156 PI2, 157 PI3, 158 VDD, 159 PA14, 160 PA15, 161 PC10, 162 PC11, 163 PC12, 164 PD0, 165 PD1, 166 PD2, 167 PD3, 168 PD4, 169 PD5, 170 VSS, 171 VDD, 172 PD6, 173 PD7, 174 PJ12, 175 PJ13, 176 PJ14, 177 PJ15, 178 PG9, 179 PG10, 180 PG11, 181 PG12, 182 PG13, 183 PG14, 184 VSS, 185 VDD, 186 PK3, 187 PK4, 188 PK5, 189 PK6, 190 PK7, 191 PG15, 192 PB3, 193 PB4, 194 PB5, 195 PB6, 196 PB7, 197 BOOT0, 198 PB8, 199 PB9, 200 PE0, 201 PE1, 202 VSS, 203 PDR_ON, 204 VDD, 205 PI4, 206 PI5, 207 PI6, 208 PI7

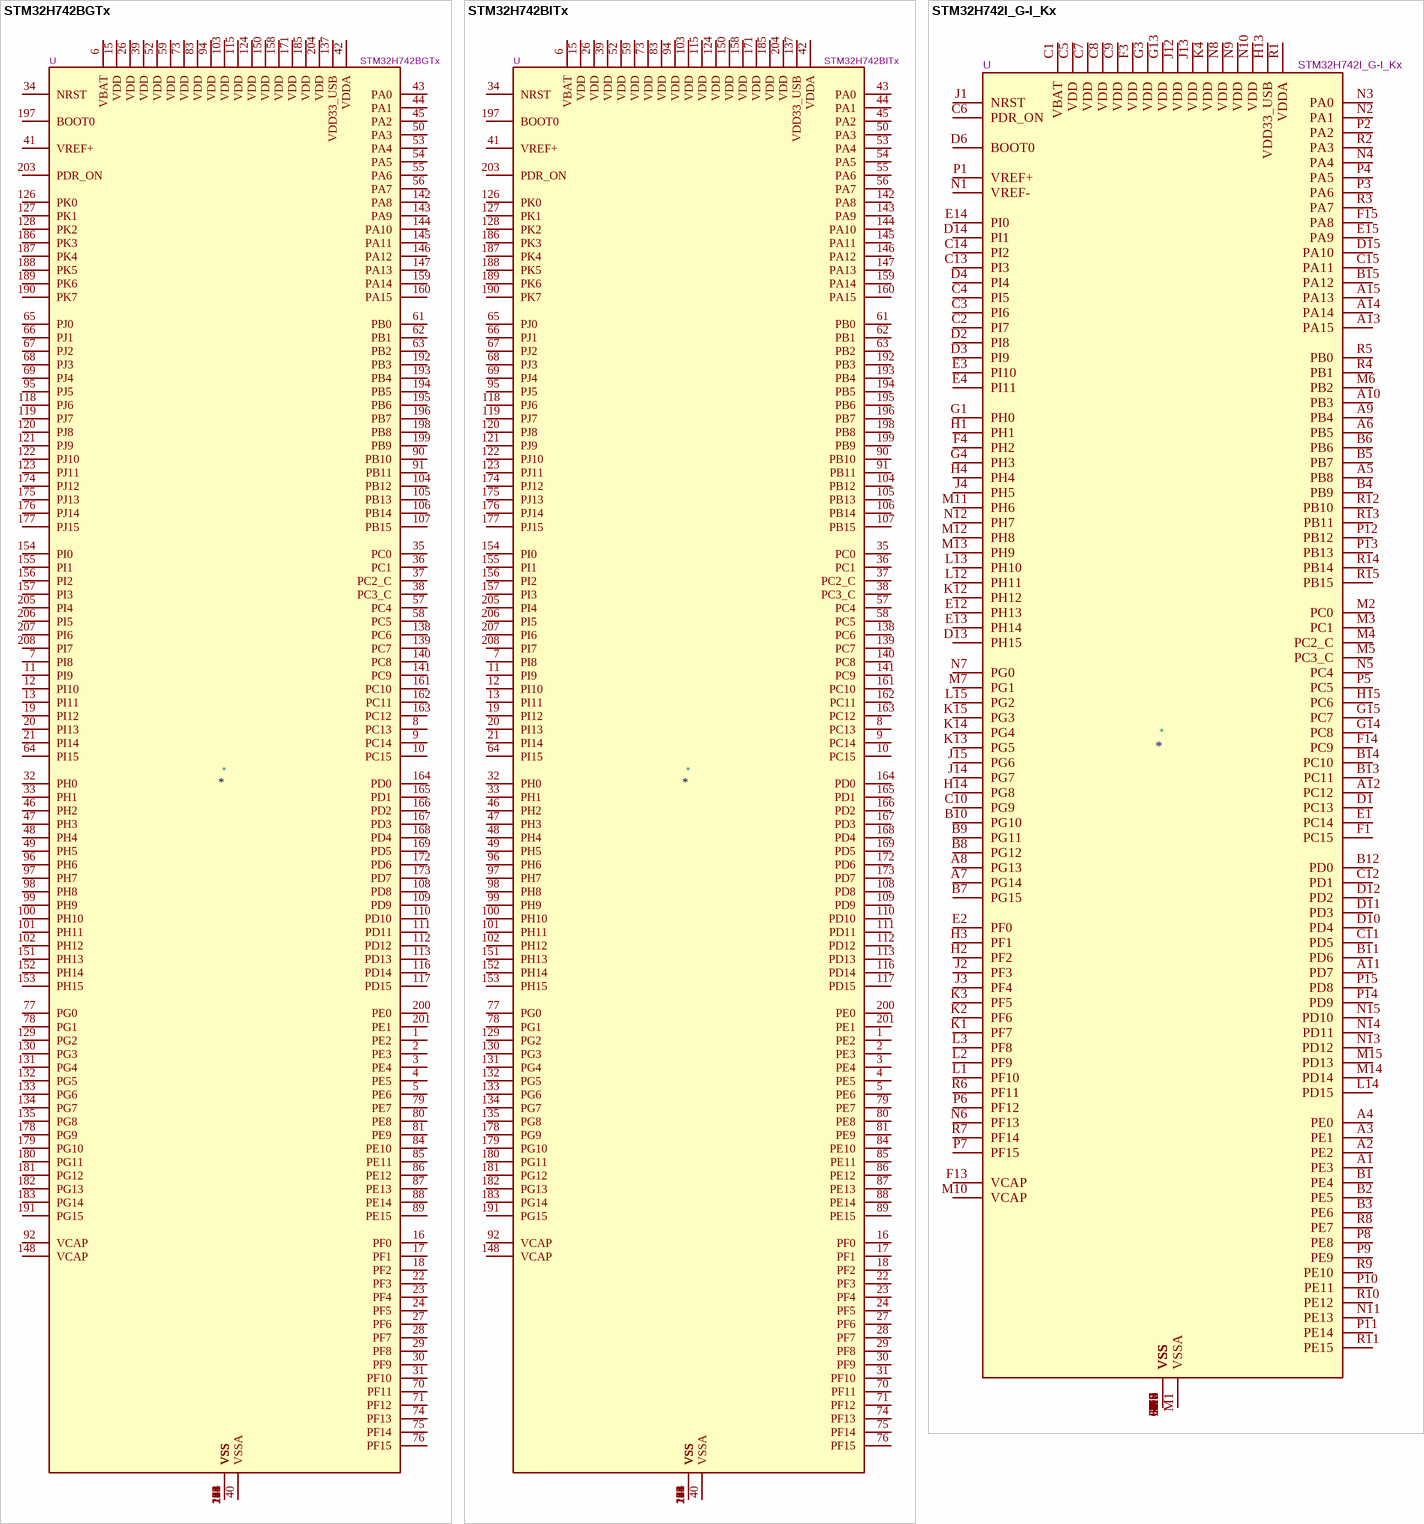
[diagram p57: symbols STM32H742BGTx to STM32H742I_G-I_Kx]

## STM32H742BGTx
designator *  value STM32H742BGTx  Reference: U
STMicroelectronics Arm Cortex-M7 MCU, 1024KB flash, 692KB RAM, 480 MHz, 1.62-3.6V, 168 GPIO, LQFP208; ki_keywords: Arm Cortex-M7 STM32H7 STM32H742; ki_fp_filters: LQFP*28x28mm*P0.5mm*; Footprint: Package_QFP:LQFP-208_28x28mm_P0.5mm; Datasheet: https://www.st.com/resource/en/datasheet/stm32h742bg.pdf; Description_: STMicroelectronics Arm Cortex-M7 MCU, 1024KB flash, 692KB RAM, 480 MHz, 1.62-3.6V, 168 GPIO, LQFP208
pins: 1 PE2, 2 PE3, 3 PE4, 4 PE5, 5 PE6, 6 VBAT, 7 PI8, 8 PC13, 9 PC14, 10 PC15, 11 PI9, 12 PI10, 13 PI11, 14 VSS, 15 VDD, 16 PF0, 17 PF1, 18 PF2, 19 PI12, 20 PI13, 21 PI14, 22 PF3, 23 PF4, 24 PF5, 25 VSS, 26 VDD, 27 PF6, 28 PF7, 29 PF8, 30 PF9, 31 PF10, 32 PH0, 33 PH1, 34 NRST, 35 PC0, 36 PC1, 37 PC2_C, 38 PC3_C, 39 VDD, 40 VSSA, 41 VREF+, 42 VDDA, 43 PA0, 44 PA1, 45 PA2, 46 PH2, 47 PH3, 48 PH4, 49 PH5, 50 PA3, 51 VSS, 52 VDD, 53 PA4, 54 PA5, 55 PA6, 56 PA7, 57 PC4, 58 PC5, 59 VDD, 60 VSS, 61 PB0, 62 PB1, 63 PB2, 64 PI15, 65 PJ0, 66 PJ1, 67 PJ2, 68 PJ3, 69 PJ4, 70 PF11, 71 PF12, 72 VSS, 73 VDD, 74 PF13, 75 PF14, 76 PF15, 77 PG0, 78 PG1, 79 PE7, 80 PE8, 81 PE9, 82 VSS, 83 VDD, 84 PE10, 85 PE11, 86 PE12, 87 PE13, 88 PE14, 89 PE15, 90 PB10, 91 PB11, 92 VCAP, 93 VSS, 94 VDD, 95 PJ5, 96 PH6, 97 PH7, 98 PH8, 99 PH9, 100 PH10, 101 PH11, 102 PH12, 103 VDD, 104 PB12, 105 PB13, 106 PB14, 107 PB15, 108 PD8, 109 PD9, 110 PD10, 111 PD11, 112 PD12, 113 PD13, 114 VSS, 115 VDD, 116 PD14, 117 PD15, 118 PJ6, 119 PJ7, 120 PJ8, 121 PJ9, 122 PJ10, 123 PJ11, 124 VDD, 125 VSS, 126 PK0, 127 PK1, 128 PK2, 129 PG2, 130 PG3, 131 PG4, 132 PG5, 133 PG6, 134 PG7, 135 PG8, 136 VSS, 137 VDD33_USB, 138 PC6, 139 PC7, 140 PC8, 141 PC9, 142 PA8, 143 PA9, 144 PA10, 145 PA11, 146 PA12, 147 PA13, 148 VCAP, 149 VSS, 150 VDD, 151 PH13, 152 PH14, 153 PH15, 154 PI0, 155 PI1, 156 PI2, 157 PI3, 158 VDD, 159 PA14, 160 PA15, 161 PC10, 162 PC11, 163 PC12, 164 PD0, 165 PD1, 166 PD2, 167 PD3, 168 PD4, 169 PD5, 170 VSS, 171 VDD, 172 PD6, 173 PD7, 174 PJ12, 175 PJ13, 176 PJ14, 177 PJ15, 178 PG9, 179 PG10, 180 PG11, 181 PG12, 182 PG13, 183 PG14, 184 VSS, 185 VDD, 186 PK3, 187 PK4, 188 PK5, 189 PK6, 190 PK7, 191 PG15, 192 PB3, 193 PB4, 194 PB5, 195 PB6, 196 PB7, 197 BOOT0, 198 PB8, 199 PB9, 200 PE0, 201 PE1, 202 VSS, 203 PDR_ON, 204 VDD, 205 PI4, 206 PI5, 207 PI6, 208 PI7

## STM32H742BITx
designator *  value STM32H742BITx  Reference: U
STMicroelectronics Arm Cortex-M7 MCU, 2048KB flash, 692KB RAM, 480 MHz, 1.62-3.6V, 168 GPIO, LQFP208; ki_keywords: Arm Cortex-M7 STM32H7 STM32H742; ki_fp_filters: LQFP*28x28mm*P0.5mm*; Footprint: Package_QFP:LQFP-208_28x28mm_P0.5mm; Datasheet: https://www.st.com/resource/en/datasheet/stm32h742bi.pdf; Description_: STMicroelectronics Arm Cortex-M7 MCU, 2048KB flash, 692KB RAM, 480 MHz, 1.62-3.6V, 168 GPIO, LQFP208
pins: 1 PE2, 2 PE3, 3 PE4, 4 PE5, 5 PE6, 6 VBAT, 7 PI8, 8 PC13, 9 PC14, 10 PC15, 11 PI9, 12 PI10, 13 PI11, 14 VSS, 15 VDD, 16 PF0, 17 PF1, 18 PF2, 19 PI12, 20 PI13, 21 PI14, 22 PF3, 23 PF4, 24 PF5, 25 VSS, 26 VDD, 27 PF6, 28 PF7, 29 PF8, 30 PF9, 31 PF10, 32 PH0, 33 PH1, 34 NRST, 35 PC0, 36 PC1, 37 PC2_C, 38 PC3_C, 39 VDD, 40 VSSA, 41 VREF+, 42 VDDA, 43 PA0, 44 PA1, 45 PA2, 46 PH2, 47 PH3, 48 PH4, 49 PH5, 50 PA3, 51 VSS, 52 VDD, 53 PA4, 54 PA5, 55 PA6, 56 PA7, 57 PC4, 58 PC5, 59 VDD, 60 VSS, 61 PB0, 62 PB1, 63 PB2, 64 PI15, 65 PJ0, 66 PJ1, 67 PJ2, 68 PJ3, 69 PJ4, 70 PF11, 71 PF12, 72 VSS, 73 VDD, 74 PF13, 75 PF14, 76 PF15, 77 PG0, 78 PG1, 79 PE7, 80 PE8, 81 PE9, 82 VSS, 83 VDD, 84 PE10, 85 PE11, 86 PE12, 87 PE13, 88 PE14, 89 PE15, 90 PB10, 91 PB11, 92 VCAP, 93 VSS, 94 VDD, 95 PJ5, 96 PH6, 97 PH7, 98 PH8, 99 PH9, 100 PH10, 101 PH11, 102 PH12, 103 VDD, 104 PB12, 105 PB13, 106 PB14, 107 PB15, 108 PD8, 109 PD9, 110 PD10, 111 PD11, 112 PD12, 113 PD13, 114 VSS, 115 VDD, 116 PD14, 117 PD15, 118 PJ6, 119 PJ7, 120 PJ8, 121 PJ9, 122 PJ10, 123 PJ11, 124 VDD, 125 VSS, 126 PK0, 127 PK1, 128 PK2, 129 PG2, 130 PG3, 131 PG4, 132 PG5, 133 PG6, 134 PG7, 135 PG8, 136 VSS, 137 VDD33_USB, 138 PC6, 139 PC7, 140 PC8, 141 PC9, 142 PA8, 143 PA9, 144 PA10, 145 PA11, 146 PA12, 147 PA13, 148 VCAP, 149 VSS, 150 VDD, 151 PH13, 152 PH14, 153 PH15, 154 PI0, 155 PI1, 156 PI2, 157 PI3, 158 VDD, 159 PA14, 160 PA15, 161 PC10, 162 PC11, 163 PC12, 164 PD0, 165 PD1, 166 PD2, 167 PD3, 168 PD4, 169 PD5, 170 VSS, 171 VDD, 172 PD6, 173 PD7, 174 PJ12, 175 PJ13, 176 PJ14, 177 PJ15, 178 PG9, 179 PG10, 180 PG11, 181 PG12, 182 PG13, 183 PG14, 184 VSS, 185 VDD, 186 PK3, 187 PK4, 188 PK5, 189 PK6, 190 PK7, 191 PG15, 192 PB3, 193 PB4, 194 PB5, 195 PB6, 196 PB7, 197 BOOT0, 198 PB8, 199 PB9, 200 PE0, 201 PE1, 202 VSS, 203 PDR_ON, 204 VDD, 205 PI4, 206 PI5, 207 PI6, 208 PI7

## STM32H742I_G-I_Kx
designator *  value STM32H742I_G-I_Kx  Reference: U
STMicroelectronics Arm Cortex-M7 MCU, 1024-2048KB flash, 692KB RAM, 480 MHz, 1.62-3.6V, 140 GPIO, UFBGA176; ki_keywords: Arm Cortex-M7 STM32H7 STM32H742; ki_fp_filters: UFBGA*10x10mm*Layout15x15*P0.65mm*; Footprint: Package_BGA:UFBGA-201_10x10mm_Layout15x15_P0.65mm; Datasheet: https://www.st.com/resource/en/datasheet/stm32h742ig.pdf; Description_: STMicroelectronics Arm Cortex-M7 MCU, 1024-2048KB flash, 692KB RAM, 480 MHz, 1.62-3.6V, 140 GPIO, UFBGA176
pins: A1 PE3, A2 PE2, A3 PE1, A4 PE0, A5 PB8, A6 PB5, A7 PG14, A8 PG13, A9 PB4, A10 PB3, A11 PD7, A12 PC12, A13 PA15, A14 PA14, A15 PA13, B1 PE4, B2 PE5, B3 PE6, B4 PB9, B5 PB7, B6 PB6, B7 PG15, B8 PG12, B9 PG11, B10 PG10, B11 PD6, B12 PD0, B13 PC11, B14 PC10, B15 PA12, C1 VBAT, C2 PI7, C3 PI6, C4 PI5, C5 VDD, C6 PDR_ON, C7 VDD, C8 VDD, C9 VDD, C10 PG9, C11 PD5, C12 PD1, C13 PI3, C14 PI2, C15 PA11, D1 PC13, D2 PI8, D3 PI9, D4 PI4, D5 VSS, D6 BOOT0, D7 VSS, D8 VSS, D9 VSS, D10 PD4, D11 PD3, D12 PD2, D13 PH15, D14 PI1, D15 PA10, E1 PC14, E2 PF0, E3 PI10, E4 PI11, E12 PH13, E13 PH14, E14 PI0, E15 PA9, F1 PC15, F2 VSS, F3 VDD, F4 PH2, F6 VSS, F7 VSS, F8 VSS, F9 VSS, F10 VSS, F12 VSS, F13 VCAP, F14 PC9, F15 PA8, G1 PH0, G2 VSS, G3 VDD, G4 PH3, G6 VSS, G7 VSS, G8 VSS, G9 VSS, G10 VSS, G12 VSS, G13 VDD, G14 PC8, G15 PC7, H1 PH1, H2 PF2, H3 PF1, H4 PH4, H6 VSS, H7 VSS, H8 VSS, H9 VSS, H10 VSS, H12 VSS, H13 VDD33_USB, H14 PG8, H15 PC6, J1 NRST, J2 PF3, J3 PF4, J4 PH5, J6 VSS, J7 VSS, J8 VSS, J9 VSS, J10 VSS, J12 VDD, J13 VDD, J14 PG7, J15 PG6, K1 PF7, K2 PF6, K3 PF5, K4 VDD, K6 VSS, K7 VSS, K8 VSS, K9 VSS, K10 VSS, K12 PH12, K13 PG5, K14 PG4, K15 PG3, L1 PF10, L2 PF9, L3 PF8, L4 VSS, L12 PH11, L13 PH10, L14 PD15, L15 PG2, M1 VSSA, M2 PC0, M3 PC1, M4 PC2_C, M5 PC3_C, M6 PB2, M7 PG1, M8 VSS, M9 VSS, M10 VCAP, M11 PH6, M12 PH8, M13 PH9, M14 PD14, M15 PD13, N1 VREF-, N2 PA1, N3 PA0, N4 PA4, N5 PC4, N6 PF13, N7 PG0, N8 VDD, N9 VDD, N10 VDD, N11 PE13, N12 PH7, N13 PD12, N14 PD11, N15 PD10, P1 VREF+, P2 PA2, P3 PA6, P4 PA5, P5 PC5, P6 PF12, P7 PF15, P8 PE8, P9 PE9, P10 PE11, P11 PE14, P12 PB12, P13 PB13, P14 PD9, P15 PD8, R1 VDDA, R2 PA3, R3 PA7, R4 PB1, R5 PB0, R6 PF11, R7 PF14, R8 PE7, R9 PE10, R10 PE12, R11 PE15, R12 PB10, R13 PB11, R14 PB14, R15 PB15

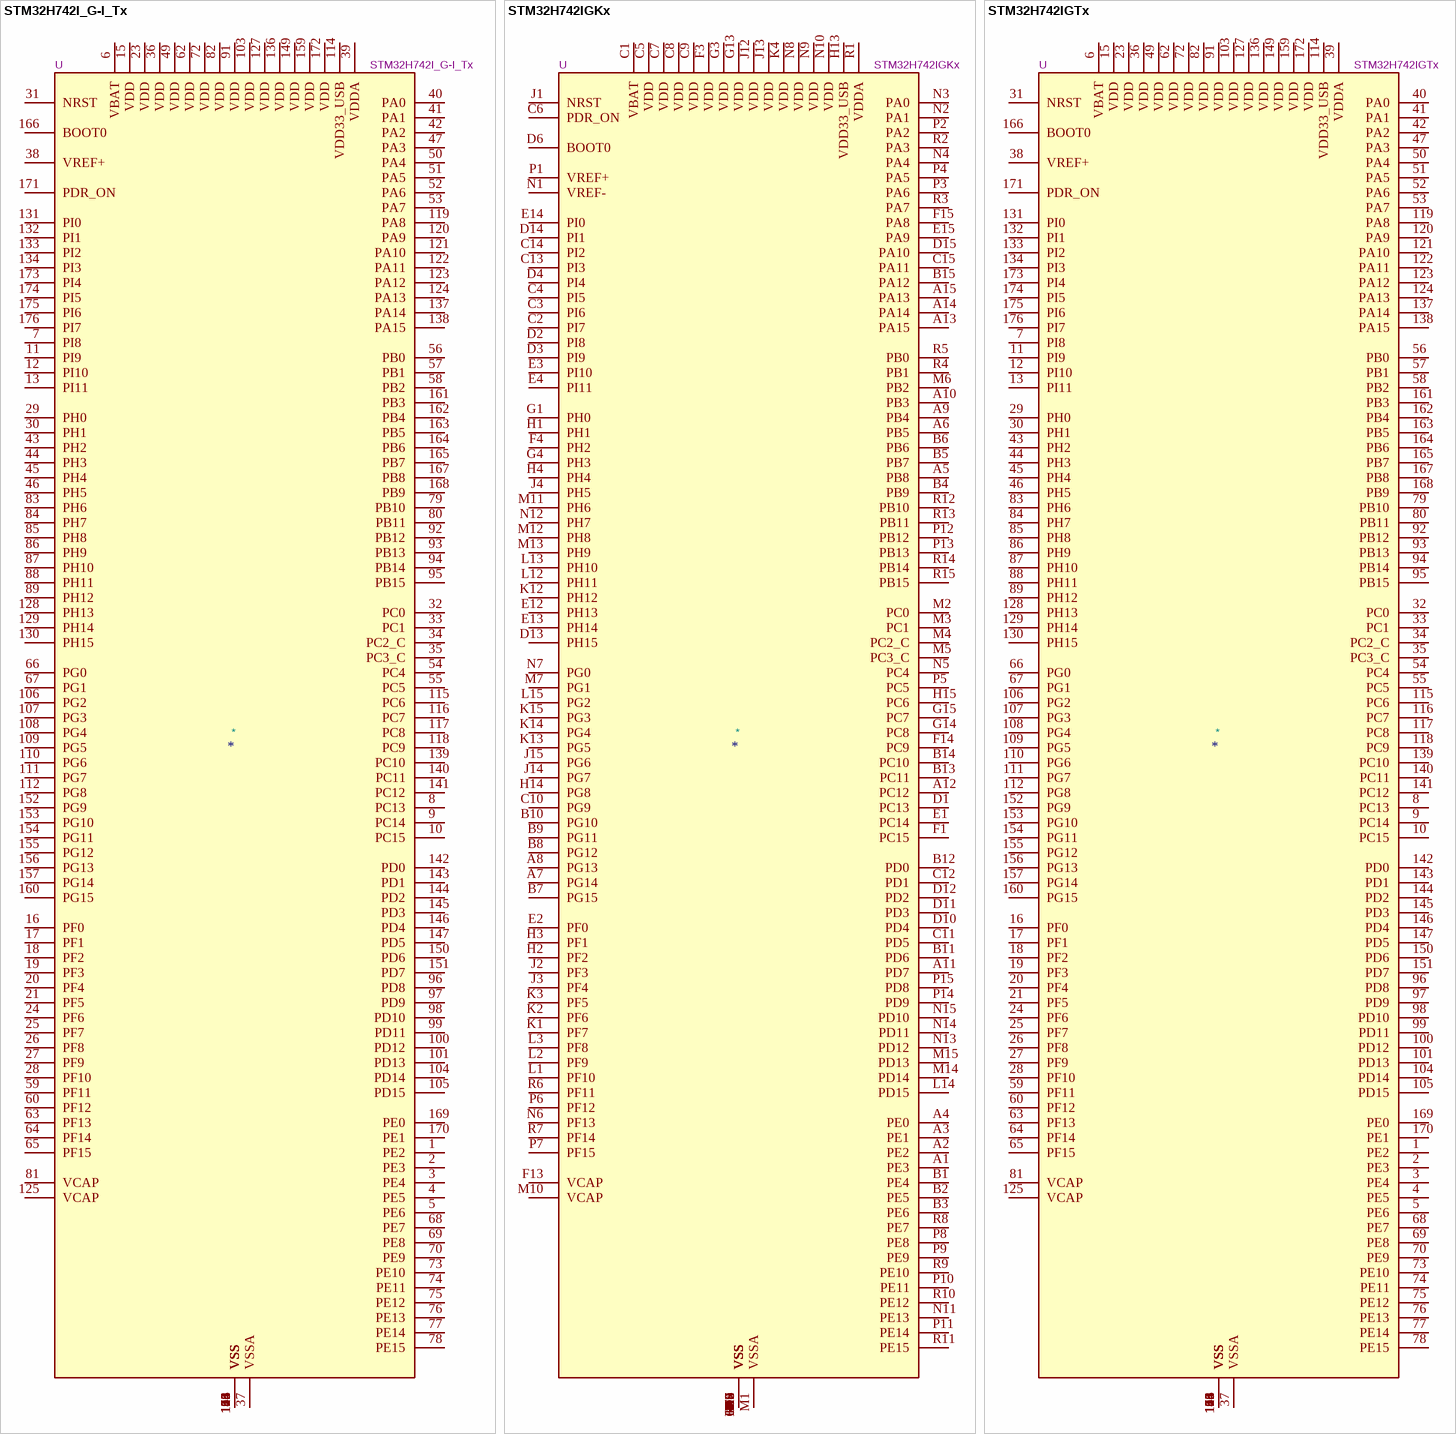
[diagram p58: symbols STM32H742I_G-I_Tx to STM32H742IGTx]

## STM32H742I_G-I_Tx
designator *  value STM32H742I_G-I_Tx  Reference: U
STMicroelectronics Arm Cortex-M7 MCU, 1024-2048KB flash, 692KB RAM, 480 MHz, 1.62-3.6V, 140 GPIO, LQFP176; ki_keywords: Arm Cortex-M7 STM32H7 STM32H742; ki_fp_filters: LQFP*24x24mm*P0.5mm*; Footprint: Package_QFP:LQFP-176_24x24mm_P0.5mm; Datasheet: https://www.st.com/resource/en/datasheet/stm32h742ig.pdf; Description_: STMicroelectronics Arm Cortex-M7 MCU, 1024-2048KB flash, 692KB RAM, 480 MHz, 1.62-3.6V, 140 GPIO, LQFP176
pins: 1 PE2, 2 PE3, 3 PE4, 4 PE5, 5 PE6, 6 VBAT, 7 PI8, 8 PC13, 9 PC14, 10 PC15, 11 PI9, 12 PI10, 13 PI11, 14 VSS, 15 VDD, 16 PF0, 17 PF1, 18 PF2, 19 PF3, 20 PF4, 21 PF5, 22 VSS, 23 VDD, 24 PF6, 25 PF7, 26 PF8, 27 PF9, 28 PF10, 29 PH0, 30 PH1, 31 NRST, 32 PC0, 33 PC1, 34 PC2_C, 35 PC3_C, 36 VDD, 37 VSSA, 38 VREF+, 39 VDDA, 40 PA0, 41 PA1, 42 PA2, 43 PH2, 44 PH3, 45 PH4, 46 PH5, 47 PA3, 48 VSS, 49 VDD, 50 PA4, 51 PA5, 52 PA6, 53 PA7, 54 PC4, 55 PC5, 56 PB0, 57 PB1, 58 PB2, 59 PF11, 60 PF12, 61 VSS, 62 VDD, 63 PF13, 64 PF14, 65 PF15, 66 PG0, 67 PG1, 68 PE7, 69 PE8, 70 PE9, 71 VSS, 72 VDD, 73 PE10, 74 PE11, 75 PE12, 76 PE13, 77 PE14, 78 PE15, 79 PB10, 80 PB11, 81 VCAP, 82 VDD, 83 PH6, 84 PH7, 85 PH8, 86 PH9, 87 PH10, 88 PH11, 89 PH12, 90 VSS, 91 VDD, 92 PB12, 93 PB13, 94 PB14, 95 PB15, 96 PD8, 97 PD9, 98 PD10, 99 PD11, 100 PD12, 101 PD13, 102 VSS, 103 VDD, 104 PD14, 105 PD15, 106 PG2, 107 PG3, 108 PG4, 109 PG5, 110 PG6, 111 PG7, 112 PG8, 113 VSS, 114 VDD33_USB, 115 PC6, 116 PC7, 117 PC8, 118 PC9, 119 PA8, 120 PA9, 121 PA10, 122 PA11, 123 PA12, 124 PA13, 125 VCAP, 126 VSS, 127 VDD, 128 PH13, 129 PH14, 130 PH15, 131 PI0, 132 PI1, 133 PI2, 134 PI3, 135 VSS, 136 VDD, 137 PA14, 138 PA15, 139 PC10, 140 PC11, 141 PC12, 142 PD0, 143 PD1, 144 PD2, 145 PD3, 146 PD4, 147 PD5, 148 VSS, 149 VDD, 150 PD6, 151 PD7, 152 PG9, 153 PG10, 154 PG11, 155 PG12, 156 PG13, 157 PG14, 158 VSS, 159 VDD, 160 PG15, 161 PB3, 162 PB4, 163 PB5, 164 PB6, 165 PB7, 166 BOOT0, 167 PB8, 168 PB9, 169 PE0, 170 PE1, 171 PDR_ON, 172 VDD, 173 PI4, 174 PI5, 175 PI6, 176 PI7

## STM32H742IGKx
designator *  value STM32H742IGKx  Reference: U
STMicroelectronics Arm Cortex-M7 MCU, 1024KB flash, 692KB RAM, 480 MHz, 1.62-3.6V, 140 GPIO, UFBGA176; ki_keywords: Arm Cortex-M7 STM32H7 STM32H742; ki_fp_filters: UFBGA*10x10mm*Layout15x15*P0.65mm*; Footprint: Package_BGA:UFBGA-201_10x10mm_Layout15x15_P0.65mm; Datasheet: https://www.st.com/resource/en/datasheet/stm32h742ig.pdf; Description_: STMicroelectronics Arm Cortex-M7 MCU, 1024KB flash, 692KB RAM, 480 MHz, 1.62-3.6V, 140 GPIO, UFBGA176
pins: A1 PE3, A2 PE2, A3 PE1, A4 PE0, A5 PB8, A6 PB5, A7 PG14, A8 PG13, A9 PB4, A10 PB3, A11 PD7, A12 PC12, A13 PA15, A14 PA14, A15 PA13, B1 PE4, B2 PE5, B3 PE6, B4 PB9, B5 PB7, B6 PB6, B7 PG15, B8 PG12, B9 PG11, B10 PG10, B11 PD6, B12 PD0, B13 PC11, B14 PC10, B15 PA12, C1 VBAT, C2 PI7, C3 PI6, C4 PI5, C5 VDD, C6 PDR_ON, C7 VDD, C8 VDD, C9 VDD, C10 PG9, C11 PD5, C12 PD1, C13 PI3, C14 PI2, C15 PA11, D1 PC13, D2 PI8, D3 PI9, D4 PI4, D5 VSS, D6 BOOT0, D7 VSS, D8 VSS, D9 VSS, D10 PD4, D11 PD3, D12 PD2, D13 PH15, D14 PI1, D15 PA10, E1 PC14, E2 PF0, E3 PI10, E4 PI11, E12 PH13, E13 PH14, E14 PI0, E15 PA9, F1 PC15, F2 VSS, F3 VDD, F4 PH2, F6 VSS, F7 VSS, F8 VSS, F9 VSS, F10 VSS, F12 VSS, F13 VCAP, F14 PC9, F15 PA8, G1 PH0, G2 VSS, G3 VDD, G4 PH3, G6 VSS, G7 VSS, G8 VSS, G9 VSS, G10 VSS, G12 VSS, G13 VDD, G14 PC8, G15 PC7, H1 PH1, H2 PF2, H3 PF1, H4 PH4, H6 VSS, H7 VSS, H8 VSS, H9 VSS, H10 VSS, H12 VSS, H13 VDD33_USB, H14 PG8, H15 PC6, J1 NRST, J2 PF3, J3 PF4, J4 PH5, J6 VSS, J7 VSS, J8 VSS, J9 VSS, J10 VSS, J12 VDD, J13 VDD, J14 PG7, J15 PG6, K1 PF7, K2 PF6, K3 PF5, K4 VDD, K6 VSS, K7 VSS, K8 VSS, K9 VSS, K10 VSS, K12 PH12, K13 PG5, K14 PG4, K15 PG3, L1 PF10, L2 PF9, L3 PF8, L4 VSS, L12 PH11, L13 PH10, L14 PD15, L15 PG2, M1 VSSA, M2 PC0, M3 PC1, M4 PC2_C, M5 PC3_C, M6 PB2, M7 PG1, M8 VSS, M9 VSS, M10 VCAP, M11 PH6, M12 PH8, M13 PH9, M14 PD14, M15 PD13, N1 VREF-, N2 PA1, N3 PA0, N4 PA4, N5 PC4, N6 PF13, N7 PG0, N8 VDD, N9 VDD, N10 VDD, N11 PE13, N12 PH7, N13 PD12, N14 PD11, N15 PD10, P1 VREF+, P2 PA2, P3 PA6, P4 PA5, P5 PC5, P6 PF12, P7 PF15, P8 PE8, P9 PE9, P10 PE11, P11 PE14, P12 PB12, P13 PB13, P14 PD9, P15 PD8, R1 VDDA, R2 PA3, R3 PA7, R4 PB1, R5 PB0, R6 PF11, R7 PF14, R8 PE7, R9 PE10, R10 PE12, R11 PE15, R12 PB10, R13 PB11, R14 PB14, R15 PB15

## STM32H742IGTx
designator *  value STM32H742IGTx  Reference: U
STMicroelectronics Arm Cortex-M7 MCU, 1024KB flash, 692KB RAM, 480 MHz, 1.62-3.6V, 140 GPIO, LQFP176; ki_keywords: Arm Cortex-M7 STM32H7 STM32H742; ki_fp_filters: LQFP*24x24mm*P0.5mm*; Footprint: Package_QFP:LQFP-176_24x24mm_P0.5mm; Datasheet: https://www.st.com/resource/en/datasheet/stm32h742ig.pdf; Description_: STMicroelectronics Arm Cortex-M7 MCU, 1024KB flash, 692KB RAM, 480 MHz, 1.62-3.6V, 140 GPIO, LQFP176
pins: 1 PE2, 2 PE3, 3 PE4, 4 PE5, 5 PE6, 6 VBAT, 7 PI8, 8 PC13, 9 PC14, 10 PC15, 11 PI9, 12 PI10, 13 PI11, 14 VSS, 15 VDD, 16 PF0, 17 PF1, 18 PF2, 19 PF3, 20 PF4, 21 PF5, 22 VSS, 23 VDD, 24 PF6, 25 PF7, 26 PF8, 27 PF9, 28 PF10, 29 PH0, 30 PH1, 31 NRST, 32 PC0, 33 PC1, 34 PC2_C, 35 PC3_C, 36 VDD, 37 VSSA, 38 VREF+, 39 VDDA, 40 PA0, 41 PA1, 42 PA2, 43 PH2, 44 PH3, 45 PH4, 46 PH5, 47 PA3, 48 VSS, 49 VDD, 50 PA4, 51 PA5, 52 PA6, 53 PA7, 54 PC4, 55 PC5, 56 PB0, 57 PB1, 58 PB2, 59 PF11, 60 PF12, 61 VSS, 62 VDD, 63 PF13, 64 PF14, 65 PF15, 66 PG0, 67 PG1, 68 PE7, 69 PE8, 70 PE9, 71 VSS, 72 VDD, 73 PE10, 74 PE11, 75 PE12, 76 PE13, 77 PE14, 78 PE15, 79 PB10, 80 PB11, 81 VCAP, 82 VDD, 83 PH6, 84 PH7, 85 PH8, 86 PH9, 87 PH10, 88 PH11, 89 PH12, 90 VSS, 91 VDD, 92 PB12, 93 PB13, 94 PB14, 95 PB15, 96 PD8, 97 PD9, 98 PD10, 99 PD11, 100 PD12, 101 PD13, 102 VSS, 103 VDD, 104 PD14, 105 PD15, 106 PG2, 107 PG3, 108 PG4, 109 PG5, 110 PG6, 111 PG7, 112 PG8, 113 VSS, 114 VDD33_USB, 115 PC6, 116 PC7, 117 PC8, 118 PC9, 119 PA8, 120 PA9, 121 PA10, 122 PA11, 123 PA12, 124 PA13, 125 VCAP, 126 VSS, 127 VDD, 128 PH13, 129 PH14, 130 PH15, 131 PI0, 132 PI1, 133 PI2, 134 PI3, 135 VSS, 136 VDD, 137 PA14, 138 PA15, 139 PC10, 140 PC11, 141 PC12, 142 PD0, 143 PD1, 144 PD2, 145 PD3, 146 PD4, 147 PD5, 148 VSS, 149 VDD, 150 PD6, 151 PD7, 152 PG9, 153 PG10, 154 PG11, 155 PG12, 156 PG13, 157 PG14, 158 VSS, 159 VDD, 160 PG15, 161 PB3, 162 PB4, 163 PB5, 164 PB6, 165 PB7, 166 BOOT0, 167 PB8, 168 PB9, 169 PE0, 170 PE1, 171 PDR_ON, 172 VDD, 173 PI4, 174 PI5, 175 PI6, 176 PI7

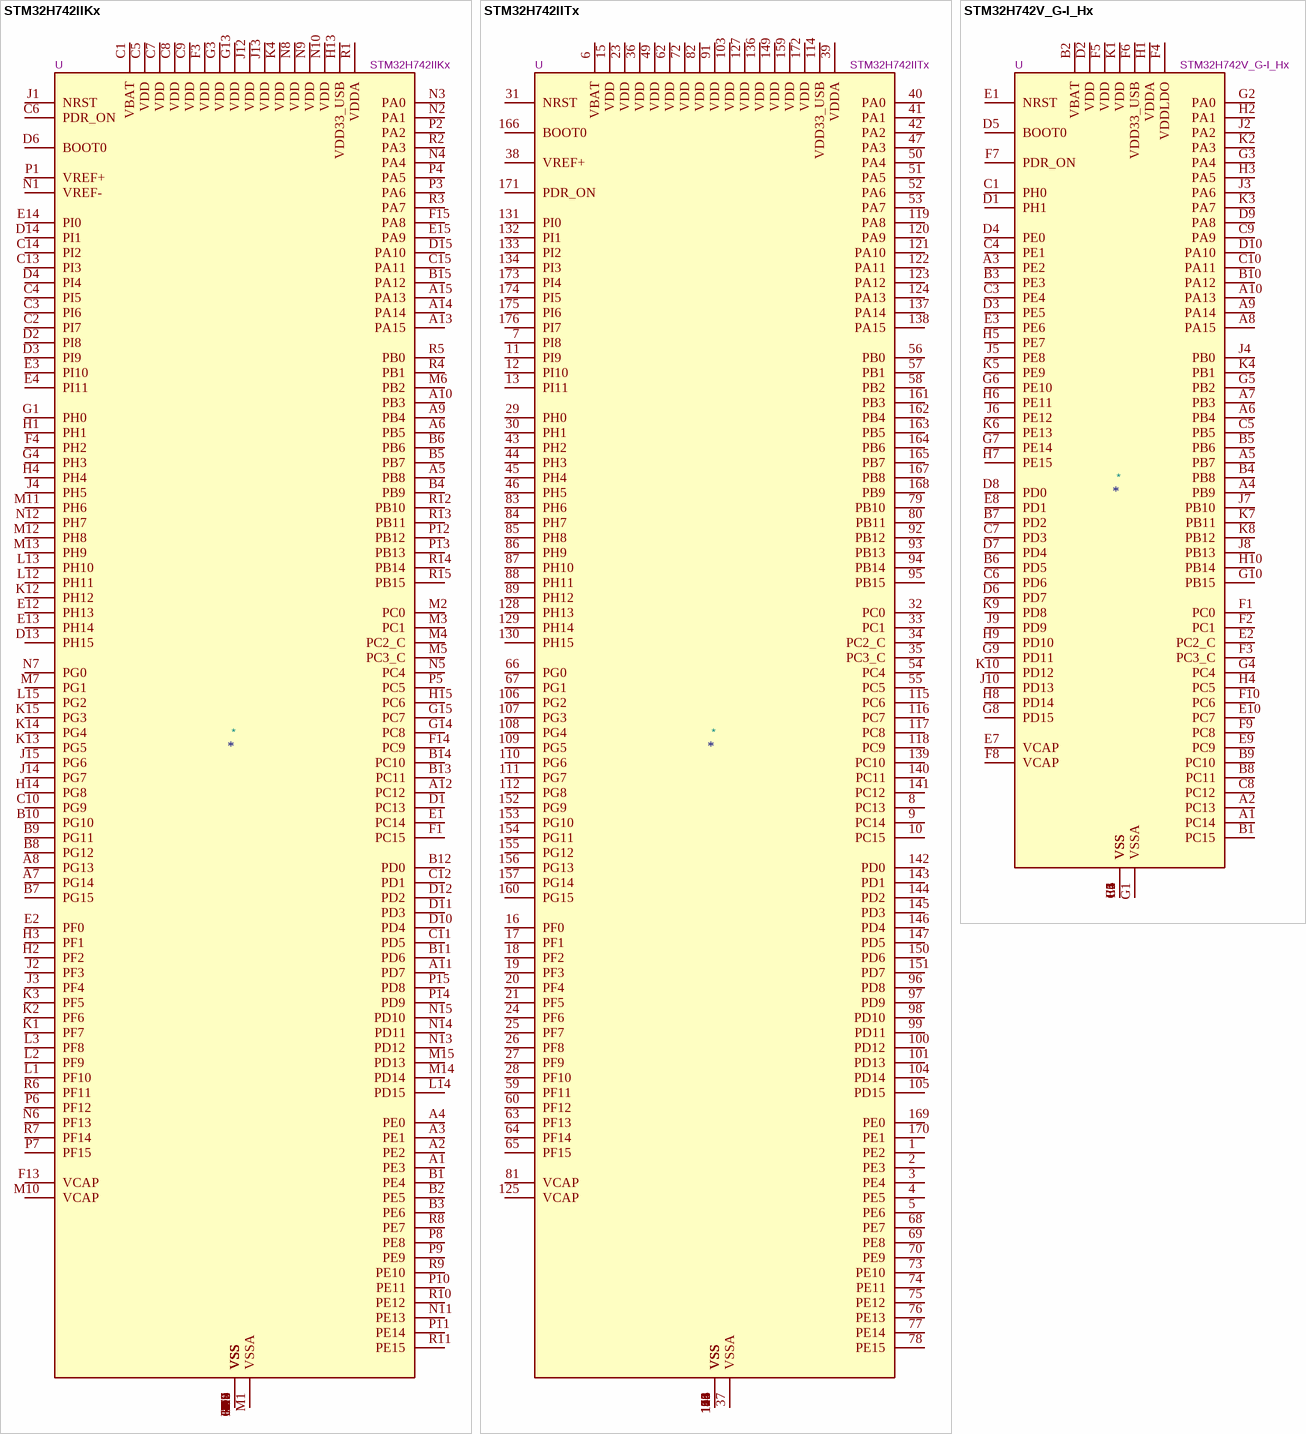
[diagram p59: symbols STM32H742IIKx to STM32H742V_G-I_Hx]

## STM32H742IIKx
designator *  value STM32H742IIKx  Reference: U
STMicroelectronics Arm Cortex-M7 MCU, 2048KB flash, 692KB RAM, 480 MHz, 1.62-3.6V, 140 GPIO, UFBGA176; ki_keywords: Arm Cortex-M7 STM32H7 STM32H742; ki_fp_filters: UFBGA*10x10mm*Layout15x15*P0.65mm*; Footprint: Package_BGA:UFBGA-201_10x10mm_Layout15x15_P0.65mm; Datasheet: https://www.st.com/resource/en/datasheet/stm32h742ii.pdf; Description_: STMicroelectronics Arm Cortex-M7 MCU, 2048KB flash, 692KB RAM, 480 MHz, 1.62-3.6V, 140 GPIO, UFBGA176
pins: A1 PE3, A2 PE2, A3 PE1, A4 PE0, A5 PB8, A6 PB5, A7 PG14, A8 PG13, A9 PB4, A10 PB3, A11 PD7, A12 PC12, A13 PA15, A14 PA14, A15 PA13, B1 PE4, B2 PE5, B3 PE6, B4 PB9, B5 PB7, B6 PB6, B7 PG15, B8 PG12, B9 PG11, B10 PG10, B11 PD6, B12 PD0, B13 PC11, B14 PC10, B15 PA12, C1 VBAT, C2 PI7, C3 PI6, C4 PI5, C5 VDD, C6 PDR_ON, C7 VDD, C8 VDD, C9 VDD, C10 PG9, C11 PD5, C12 PD1, C13 PI3, C14 PI2, C15 PA11, D1 PC13, D2 PI8, D3 PI9, D4 PI4, D5 VSS, D6 BOOT0, D7 VSS, D8 VSS, D9 VSS, D10 PD4, D11 PD3, D12 PD2, D13 PH15, D14 PI1, D15 PA10, E1 PC14, E2 PF0, E3 PI10, E4 PI11, E12 PH13, E13 PH14, E14 PI0, E15 PA9, F1 PC15, F2 VSS, F3 VDD, F4 PH2, F6 VSS, F7 VSS, F8 VSS, F9 VSS, F10 VSS, F12 VSS, F13 VCAP, F14 PC9, F15 PA8, G1 PH0, G2 VSS, G3 VDD, G4 PH3, G6 VSS, G7 VSS, G8 VSS, G9 VSS, G10 VSS, G12 VSS, G13 VDD, G14 PC8, G15 PC7, H1 PH1, H2 PF2, H3 PF1, H4 PH4, H6 VSS, H7 VSS, H8 VSS, H9 VSS, H10 VSS, H12 VSS, H13 VDD33_USB, H14 PG8, H15 PC6, J1 NRST, J2 PF3, J3 PF4, J4 PH5, J6 VSS, J7 VSS, J8 VSS, J9 VSS, J10 VSS, J12 VDD, J13 VDD, J14 PG7, J15 PG6, K1 PF7, K2 PF6, K3 PF5, K4 VDD, K6 VSS, K7 VSS, K8 VSS, K9 VSS, K10 VSS, K12 PH12, K13 PG5, K14 PG4, K15 PG3, L1 PF10, L2 PF9, L3 PF8, L4 VSS, L12 PH11, L13 PH10, L14 PD15, L15 PG2, M1 VSSA, M2 PC0, M3 PC1, M4 PC2_C, M5 PC3_C, M6 PB2, M7 PG1, M8 VSS, M9 VSS, M10 VCAP, M11 PH6, M12 PH8, M13 PH9, M14 PD14, M15 PD13, N1 VREF-, N2 PA1, N3 PA0, N4 PA4, N5 PC4, N6 PF13, N7 PG0, N8 VDD, N9 VDD, N10 VDD, N11 PE13, N12 PH7, N13 PD12, N14 PD11, N15 PD10, P1 VREF+, P2 PA2, P3 PA6, P4 PA5, P5 PC5, P6 PF12, P7 PF15, P8 PE8, P9 PE9, P10 PE11, P11 PE14, P12 PB12, P13 PB13, P14 PD9, P15 PD8, R1 VDDA, R2 PA3, R3 PA7, R4 PB1, R5 PB0, R6 PF11, R7 PF14, R8 PE7, R9 PE10, R10 PE12, R11 PE15, R12 PB10, R13 PB11, R14 PB14, R15 PB15

## STM32H742IITx
designator *  value STM32H742IITx  Reference: U
STMicroelectronics Arm Cortex-M7 MCU, 2048KB flash, 692KB RAM, 480 MHz, 1.62-3.6V, 140 GPIO, LQFP176; ki_keywords: Arm Cortex-M7 STM32H7 STM32H742; ki_fp_filters: LQFP*24x24mm*P0.5mm*; Footprint: Package_QFP:LQFP-176_24x24mm_P0.5mm; Datasheet: https://www.st.com/resource/en/datasheet/stm32h742ii.pdf; Description_: STMicroelectronics Arm Cortex-M7 MCU, 2048KB flash, 692KB RAM, 480 MHz, 1.62-3.6V, 140 GPIO, LQFP176
pins: 1 PE2, 2 PE3, 3 PE4, 4 PE5, 5 PE6, 6 VBAT, 7 PI8, 8 PC13, 9 PC14, 10 PC15, 11 PI9, 12 PI10, 13 PI11, 14 VSS, 15 VDD, 16 PF0, 17 PF1, 18 PF2, 19 PF3, 20 PF4, 21 PF5, 22 VSS, 23 VDD, 24 PF6, 25 PF7, 26 PF8, 27 PF9, 28 PF10, 29 PH0, 30 PH1, 31 NRST, 32 PC0, 33 PC1, 34 PC2_C, 35 PC3_C, 36 VDD, 37 VSSA, 38 VREF+, 39 VDDA, 40 PA0, 41 PA1, 42 PA2, 43 PH2, 44 PH3, 45 PH4, 46 PH5, 47 PA3, 48 VSS, 49 VDD, 50 PA4, 51 PA5, 52 PA6, 53 PA7, 54 PC4, 55 PC5, 56 PB0, 57 PB1, 58 PB2, 59 PF11, 60 PF12, 61 VSS, 62 VDD, 63 PF13, 64 PF14, 65 PF15, 66 PG0, 67 PG1, 68 PE7, 69 PE8, 70 PE9, 71 VSS, 72 VDD, 73 PE10, 74 PE11, 75 PE12, 76 PE13, 77 PE14, 78 PE15, 79 PB10, 80 PB11, 81 VCAP, 82 VDD, 83 PH6, 84 PH7, 85 PH8, 86 PH9, 87 PH10, 88 PH11, 89 PH12, 90 VSS, 91 VDD, 92 PB12, 93 PB13, 94 PB14, 95 PB15, 96 PD8, 97 PD9, 98 PD10, 99 PD11, 100 PD12, 101 PD13, 102 VSS, 103 VDD, 104 PD14, 105 PD15, 106 PG2, 107 PG3, 108 PG4, 109 PG5, 110 PG6, 111 PG7, 112 PG8, 113 VSS, 114 VDD33_USB, 115 PC6, 116 PC7, 117 PC8, 118 PC9, 119 PA8, 120 PA9, 121 PA10, 122 PA11, 123 PA12, 124 PA13, 125 VCAP, 126 VSS, 127 VDD, 128 PH13, 129 PH14, 130 PH15, 131 PI0, 132 PI1, 133 PI2, 134 PI3, 135 VSS, 136 VDD, 137 PA14, 138 PA15, 139 PC10, 140 PC11, 141 PC12, 142 PD0, 143 PD1, 144 PD2, 145 PD3, 146 PD4, 147 PD5, 148 VSS, 149 VDD, 150 PD6, 151 PD7, 152 PG9, 153 PG10, 154 PG11, 155 PG12, 156 PG13, 157 PG14, 158 VSS, 159 VDD, 160 PG15, 161 PB3, 162 PB4, 163 PB5, 164 PB6, 165 PB7, 166 BOOT0, 167 PB8, 168 PB9, 169 PE0, 170 PE1, 171 PDR_ON, 172 VDD, 173 PI4, 174 PI5, 175 PI6, 176 PI7

## STM32H742V_G-I_Hx
designator *  value STM32H742V_G-I_Hx  Reference: U
STMicroelectronics Arm Cortex-M7 MCU, 1024-2048KB flash, 692KB RAM, 480 MHz, 1.71-3.6V, 82 GPIO, TFBGA100; ki_keywords: Arm Cortex-M7 STM32H7 STM32H742; ki_fp_filters: TFBGA*8x8mm*Layout10x10*P0.8mm*; Footprint: Package_BGA:TFBGA-100_8x8mm_Layout10x10_P0.8mm; Datasheet: https://www.st.com/resource/en/datasheet/stm32h742vg.pdf; Description_: STMicroelectronics Arm Cortex-M7 MCU, 1024-2048KB flash, 692KB RAM, 480 MHz, 1.71-3.6V, 82 GPIO, TFBGA100
pins: A1 PC14, A2 PC13, A3 PE2, A4 PB9, A5 PB7, A6 PB4, A7 PB3, A8 PA15, A9 PA14, A10 PA13, B1 PC15, B2 VBAT, B3 PE3, B4 PB8, B5 PB6, B6 PD5, B7 PD2, B8 PC11, B9 PC10, B10 PA12, C1 PH0, C2 VSS, C3 PE4, C4 PE1, C5 PB5, C6 PD6, C7 PD3, C8 PC12, C9 PA9, C10 PA11, D1 PH1, D2 VDD, D3 PE5, D4 PE0, D5 BOOT0, D6 PD7, D7 PD4, D8 PD0, D9 PA8, D10 PA10, E1 NRST, E2 PC2_C, E3 PE6, E4 VSS, E5 VSS, E6 VSS, E7 VCAP, E8 PD1, E9 PC9, E10 PC7, F1 PC0, F2 PC1, F3 PC3_C, F4 VDDLDO, F5 VDD, F6 VDD33_USB, F7 PDR_ON, F8 VCAP, F9 PC8, F10 PC6, G1 VSSA, G2 PA0, G3 PA4, G4 PC4, G5 PB2, G6 PE10, G7 PE14, G8 PD15, G9 PD11, G10 PB15, H1 VDDA, H2 PA1, H3 PA5, H4 PC5, H5 PE7, H6 PE11, H7 PE15, H8 PD14, H9 PD10, H10 PB14, J1 VSS, J2 PA2, J3 PA6, J4 PB0, J5 PE8, J6 PE12, J7 PB10, J8 PB13, J9 PD9, J10 PD13, K1 VDD, K2 PA3, K3 PA7, K4 PB1, K5 PE9, K6 PE13, K7 PB11, K8 PB12, K9 PD8, K10 PD12

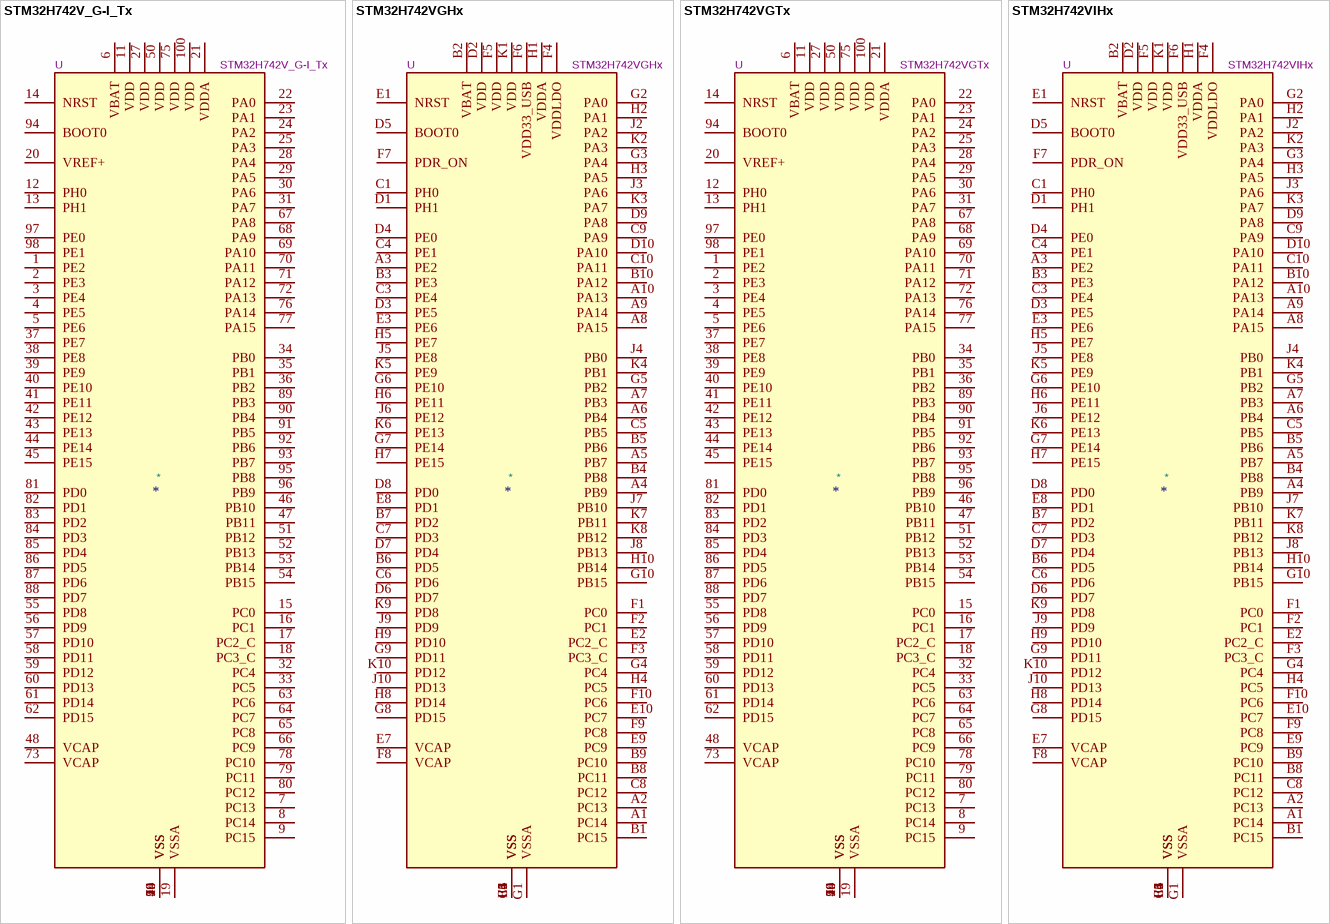
[diagram p60: symbols STM32H742V_G-I_Tx to STM32H742VIHx]

## STM32H742V_G-I_Tx
designator *  value STM32H742V_G-I_Tx  Reference: U
STMicroelectronics Arm Cortex-M7 MCU, 1024-2048KB flash, 692KB RAM, 480 MHz, 1.71-3.6V, 82 GPIO, LQFP100; ki_keywords: Arm Cortex-M7 STM32H7 STM32H742; ki_fp_filters: LQFP*14x14mm*P0.5mm*; Footprint: Package_QFP:LQFP-100_14x14mm_P0.5mm; Datasheet: https://www.st.com/resource/en/datasheet/stm32h742vg.pdf; Description_: STMicroelectronics Arm Cortex-M7 MCU, 1024-2048KB flash, 692KB RAM, 480 MHz, 1.71-3.6V, 82 GPIO, LQFP100
pins: 1 PE2, 2 PE3, 3 PE4, 4 PE5, 5 PE6, 6 VBAT, 7 PC13, 8 PC14, 9 PC15, 10 VSS, 11 VDD, 12 PH0, 13 PH1, 14 NRST, 15 PC0, 16 PC1, 17 PC2_C, 18 PC3_C, 19 VSSA, 20 VREF+, 21 VDDA, 22 PA0, 23 PA1, 24 PA2, 25 PA3, 26 VSS, 27 VDD, 28 PA4, 29 PA5, 30 PA6, 31 PA7, 32 PC4, 33 PC5, 34 PB0, 35 PB1, 36 PB2, 37 PE7, 38 PE8, 39 PE9, 40 PE10, 41 PE11, 42 PE12, 43 PE13, 44 PE14, 45 PE15, 46 PB10, 47 PB11, 48 VCAP, 49 VSS, 50 VDD, 51 PB12, 52 PB13, 53 PB14, 54 PB15, 55 PD8, 56 PD9, 57 PD10, 58 PD11, 59 PD12, 60 PD13, 61 PD14, 62 PD15, 63 PC6, 64 PC7, 65 PC8, 66 PC9, 67 PA8, 68 PA9, 69 PA10, 70 PA11, 71 PA12, 72 PA13, 73 VCAP, 74 VSS, 75 VDD, 76 PA14, 77 PA15, 78 PC10, 79 PC11, 80 PC12, 81 PD0, 82 PD1, 83 PD2, 84 PD3, 85 PD4, 86 PD5, 87 PD6, 88 PD7, 89 PB3, 90 PB4, 91 PB5, 92 PB6, 93 PB7, 94 BOOT0, 95 PB8, 96 PB9, 97 PE0, 98 PE1, 99 VSS, 100 VDD

## STM32H742VGHx
designator *  value STM32H742VGHx  Reference: U
STMicroelectronics Arm Cortex-M7 MCU, 1024KB flash, 692KB RAM, 480 MHz, 1.71-3.6V, 82 GPIO, TFBGA100; ki_keywords: Arm Cortex-M7 STM32H7 STM32H742; ki_fp_filters: TFBGA*8x8mm*Layout10x10*P0.8mm*; Footprint: Package_BGA:TFBGA-100_8x8mm_Layout10x10_P0.8mm; Datasheet: https://www.st.com/resource/en/datasheet/stm32h742vg.pdf; Description_: STMicroelectronics Arm Cortex-M7 MCU, 1024KB flash, 692KB RAM, 480 MHz, 1.71-3.6V, 82 GPIO, TFBGA100
pins: A1 PC14, A2 PC13, A3 PE2, A4 PB9, A5 PB7, A6 PB4, A7 PB3, A8 PA15, A9 PA14, A10 PA13, B1 PC15, B2 VBAT, B3 PE3, B4 PB8, B5 PB6, B6 PD5, B7 PD2, B8 PC11, B9 PC10, B10 PA12, C1 PH0, C2 VSS, C3 PE4, C4 PE1, C5 PB5, C6 PD6, C7 PD3, C8 PC12, C9 PA9, C10 PA11, D1 PH1, D2 VDD, D3 PE5, D4 PE0, D5 BOOT0, D6 PD7, D7 PD4, D8 PD0, D9 PA8, D10 PA10, E1 NRST, E2 PC2_C, E3 PE6, E4 VSS, E5 VSS, E6 VSS, E7 VCAP, E8 PD1, E9 PC9, E10 PC7, F1 PC0, F2 PC1, F3 PC3_C, F4 VDDLDO, F5 VDD, F6 VDD33_USB, F7 PDR_ON, F8 VCAP, F9 PC8, F10 PC6, G1 VSSA, G2 PA0, G3 PA4, G4 PC4, G5 PB2, G6 PE10, G7 PE14, G8 PD15, G9 PD11, G10 PB15, H1 VDDA, H2 PA1, H3 PA5, H4 PC5, H5 PE7, H6 PE11, H7 PE15, H8 PD14, H9 PD10, H10 PB14, J1 VSS, J2 PA2, J3 PA6, J4 PB0, J5 PE8, J6 PE12, J7 PB10, J8 PB13, J9 PD9, J10 PD13, K1 VDD, K2 PA3, K3 PA7, K4 PB1, K5 PE9, K6 PE13, K7 PB11, K8 PB12, K9 PD8, K10 PD12

## STM32H742VGTx
designator *  value STM32H742VGTx  Reference: U
STMicroelectronics Arm Cortex-M7 MCU, 1024KB flash, 692KB RAM, 480 MHz, 1.71-3.6V, 82 GPIO, LQFP100; ki_keywords: Arm Cortex-M7 STM32H7 STM32H742; ki_fp_filters: LQFP*14x14mm*P0.5mm*; Footprint: Package_QFP:LQFP-100_14x14mm_P0.5mm; Datasheet: https://www.st.com/resource/en/datasheet/stm32h742vg.pdf; Description_: STMicroelectronics Arm Cortex-M7 MCU, 1024KB flash, 692KB RAM, 480 MHz, 1.71-3.6V, 82 GPIO, LQFP100
pins: 1 PE2, 2 PE3, 3 PE4, 4 PE5, 5 PE6, 6 VBAT, 7 PC13, 8 PC14, 9 PC15, 10 VSS, 11 VDD, 12 PH0, 13 PH1, 14 NRST, 15 PC0, 16 PC1, 17 PC2_C, 18 PC3_C, 19 VSSA, 20 VREF+, 21 VDDA, 22 PA0, 23 PA1, 24 PA2, 25 PA3, 26 VSS, 27 VDD, 28 PA4, 29 PA5, 30 PA6, 31 PA7, 32 PC4, 33 PC5, 34 PB0, 35 PB1, 36 PB2, 37 PE7, 38 PE8, 39 PE9, 40 PE10, 41 PE11, 42 PE12, 43 PE13, 44 PE14, 45 PE15, 46 PB10, 47 PB11, 48 VCAP, 49 VSS, 50 VDD, 51 PB12, 52 PB13, 53 PB14, 54 PB15, 55 PD8, 56 PD9, 57 PD10, 58 PD11, 59 PD12, 60 PD13, 61 PD14, 62 PD15, 63 PC6, 64 PC7, 65 PC8, 66 PC9, 67 PA8, 68 PA9, 69 PA10, 70 PA11, 71 PA12, 72 PA13, 73 VCAP, 74 VSS, 75 VDD, 76 PA14, 77 PA15, 78 PC10, 79 PC11, 80 PC12, 81 PD0, 82 PD1, 83 PD2, 84 PD3, 85 PD4, 86 PD5, 87 PD6, 88 PD7, 89 PB3, 90 PB4, 91 PB5, 92 PB6, 93 PB7, 94 BOOT0, 95 PB8, 96 PB9, 97 PE0, 98 PE1, 99 VSS, 100 VDD

## STM32H742VIHx
designator *  value STM32H742VIHx  Reference: U
STMicroelectronics Arm Cortex-M7 MCU, 2048KB flash, 692KB RAM, 480 MHz, 1.71-3.6V, 82 GPIO, TFBGA100; ki_keywords: Arm Cortex-M7 STM32H7 STM32H742; ki_fp_filters: TFBGA*8x8mm*Layout10x10*P0.8mm*; Footprint: Package_BGA:TFBGA-100_8x8mm_Layout10x10_P0.8mm; Datasheet: https://www.st.com/resource/en/datasheet/stm32h742vi.pdf; Description_: STMicroelectronics Arm Cortex-M7 MCU, 2048KB flash, 692KB RAM, 480 MHz, 1.71-3.6V, 82 GPIO, TFBGA100
pins: A1 PC14, A2 PC13, A3 PE2, A4 PB9, A5 PB7, A6 PB4, A7 PB3, A8 PA15, A9 PA14, A10 PA13, B1 PC15, B2 VBAT, B3 PE3, B4 PB8, B5 PB6, B6 PD5, B7 PD2, B8 PC11, B9 PC10, B10 PA12, C1 PH0, C2 VSS, C3 PE4, C4 PE1, C5 PB5, C6 PD6, C7 PD3, C8 PC12, C9 PA9, C10 PA11, D1 PH1, D2 VDD, D3 PE5, D4 PE0, D5 BOOT0, D6 PD7, D7 PD4, D8 PD0, D9 PA8, D10 PA10, E1 NRST, E2 PC2_C, E3 PE6, E4 VSS, E5 VSS, E6 VSS, E7 VCAP, E8 PD1, E9 PC9, E10 PC7, F1 PC0, F2 PC1, F3 PC3_C, F4 VDDLDO, F5 VDD, F6 VDD33_USB, F7 PDR_ON, F8 VCAP, F9 PC8, F10 PC6, G1 VSSA, G2 PA0, G3 PA4, G4 PC4, G5 PB2, G6 PE10, G7 PE14, G8 PD15, G9 PD11, G10 PB15, H1 VDDA, H2 PA1, H3 PA5, H4 PC5, H5 PE7, H6 PE11, H7 PE15, H8 PD14, H9 PD10, H10 PB14, J1 VSS, J2 PA2, J3 PA6, J4 PB0, J5 PE8, J6 PE12, J7 PB10, J8 PB13, J9 PD9, J10 PD13, K1 VDD, K2 PA3, K3 PA7, K4 PB1, K5 PE9, K6 PE13, K7 PB11, K8 PB12, K9 PD8, K10 PD12

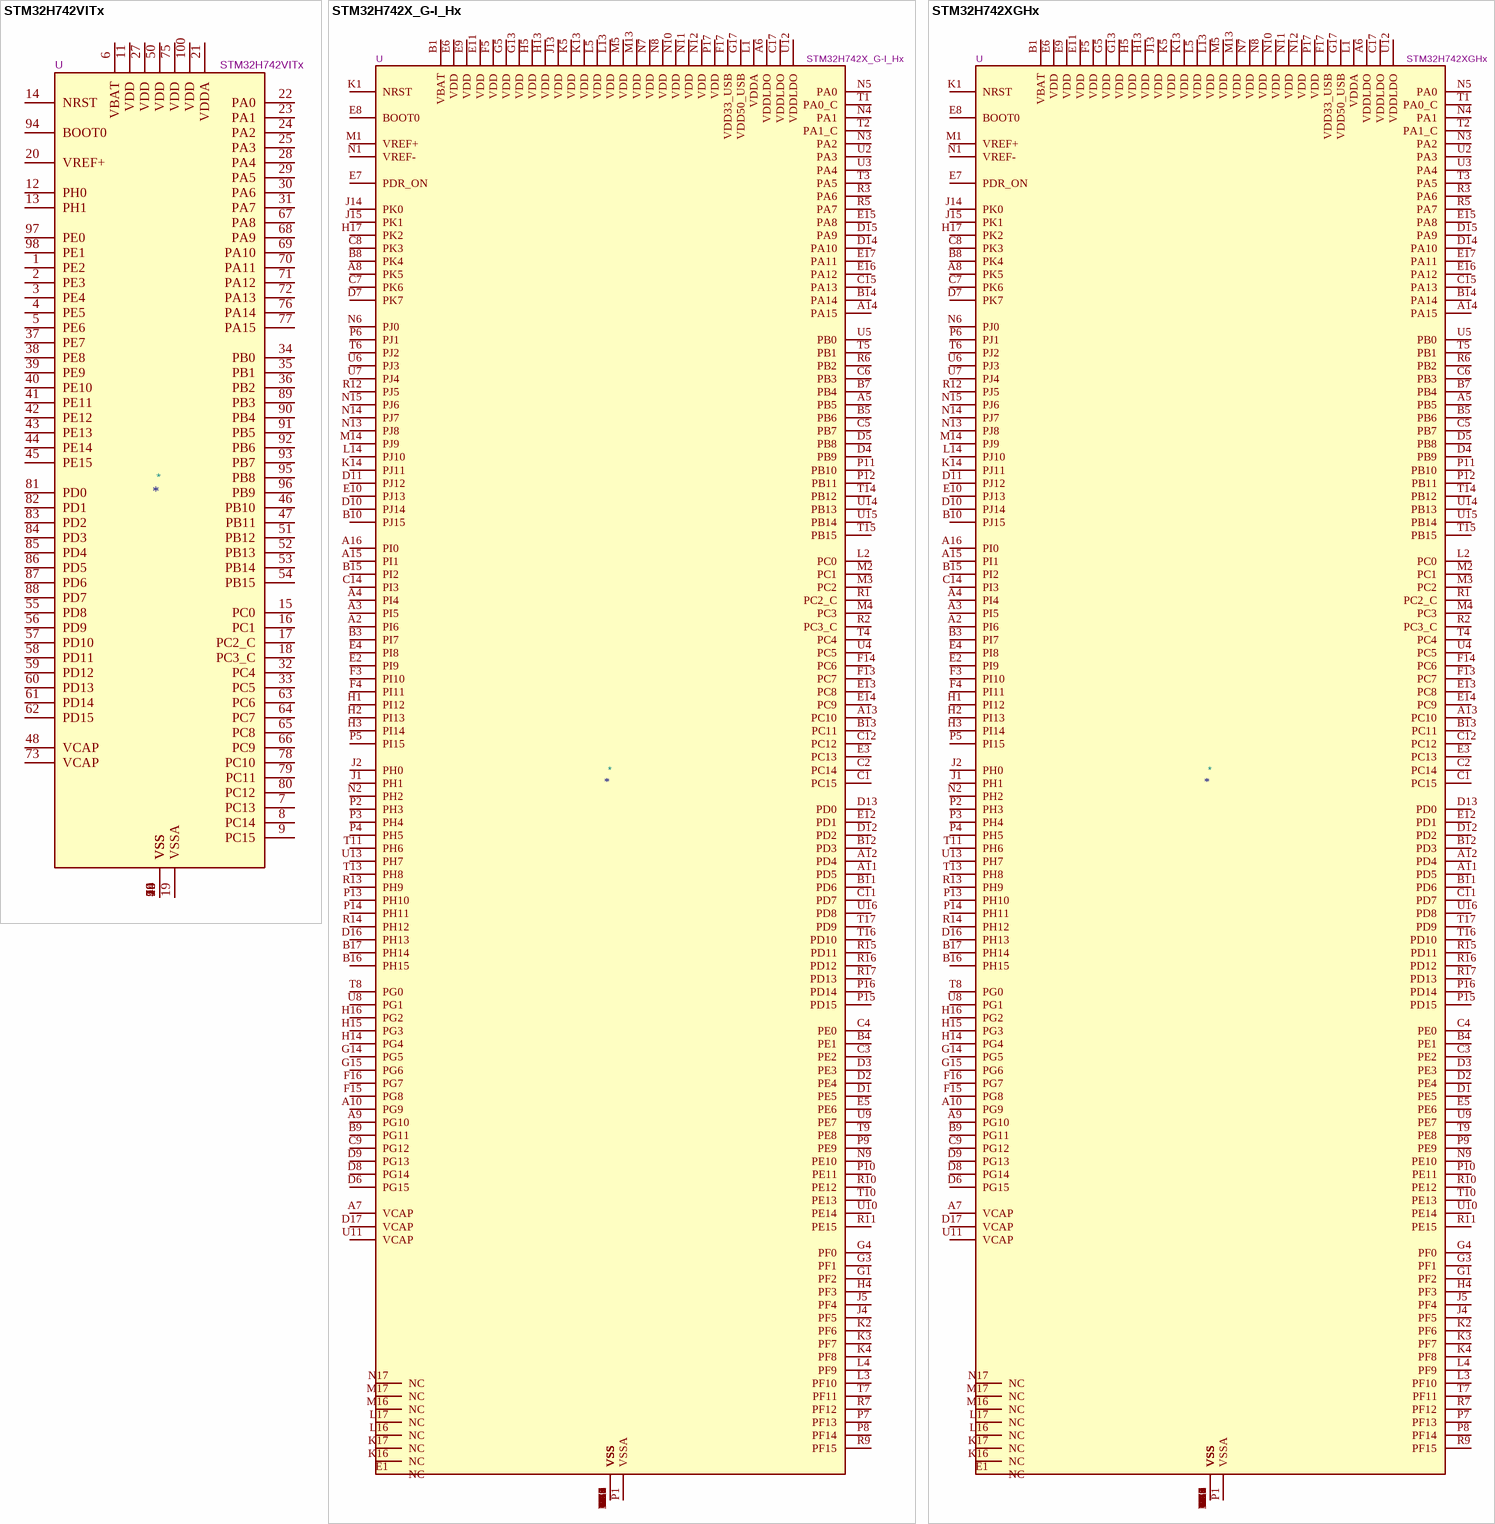
[diagram p61: symbols STM32H742VITx to STM32H742XGHx]

## STM32H742VITx
designator *  value STM32H742VITx  Reference: U
STMicroelectronics Arm Cortex-M7 MCU, 2048KB flash, 692KB RAM, 480 MHz, 1.71-3.6V, 82 GPIO, LQFP100; ki_keywords: Arm Cortex-M7 STM32H7 STM32H742; ki_fp_filters: LQFP*14x14mm*P0.5mm*; Footprint: Package_QFP:LQFP-100_14x14mm_P0.5mm; Datasheet: https://www.st.com/resource/en/datasheet/stm32h742vi.pdf; Description_: STMicroelectronics Arm Cortex-M7 MCU, 2048KB flash, 692KB RAM, 480 MHz, 1.71-3.6V, 82 GPIO, LQFP100
pins: 1 PE2, 2 PE3, 3 PE4, 4 PE5, 5 PE6, 6 VBAT, 7 PC13, 8 PC14, 9 PC15, 10 VSS, 11 VDD, 12 PH0, 13 PH1, 14 NRST, 15 PC0, 16 PC1, 17 PC2_C, 18 PC3_C, 19 VSSA, 20 VREF+, 21 VDDA, 22 PA0, 23 PA1, 24 PA2, 25 PA3, 26 VSS, 27 VDD, 28 PA4, 29 PA5, 30 PA6, 31 PA7, 32 PC4, 33 PC5, 34 PB0, 35 PB1, 36 PB2, 37 PE7, 38 PE8, 39 PE9, 40 PE10, 41 PE11, 42 PE12, 43 PE13, 44 PE14, 45 PE15, 46 PB10, 47 PB11, 48 VCAP, 49 VSS, 50 VDD, 51 PB12, 52 PB13, 53 PB14, 54 PB15, 55 PD8, 56 PD9, 57 PD10, 58 PD11, 59 PD12, 60 PD13, 61 PD14, 62 PD15, 63 PC6, 64 PC7, 65 PC8, 66 PC9, 67 PA8, 68 PA9, 69 PA10, 70 PA11, 71 PA12, 72 PA13, 73 VCAP, 74 VSS, 75 VDD, 76 PA14, 77 PA15, 78 PC10, 79 PC11, 80 PC12, 81 PD0, 82 PD1, 83 PD2, 84 PD3, 85 PD4, 86 PD5, 87 PD6, 88 PD7, 89 PB3, 90 PB4, 91 PB5, 92 PB6, 93 PB7, 94 BOOT0, 95 PB8, 96 PB9, 97 PE0, 98 PE1, 99 VSS, 100 VDD

## STM32H742X_G-I_Hx
designator *  value STM32H742X_G-I_Hx  Reference: U
STMicroelectronics Arm Cortex-M7 MCU, 1024-2048KB flash, 692KB RAM, 480 MHz, 1.62-3.6V, 172 GPIO, TFBGA240; ki_keywords: Arm Cortex-M7 STM32H7 STM32H742; ki_fp_filters: TFBGA*14x14mm*Layout17x17*P0.8mm*; Footprint: Package_BGA:TFBGA-265_14x14mm_Layout17x17_P0.8mm; Datasheet: https://www.st.com/resource/en/datasheet/stm32h742xg.pdf; Description_: STMicroelectronics Arm Cortex-M7 MCU, 1024-2048KB flash, 692KB RAM, 480 MHz, 1.62-3.6V, 172 GPIO, TFBGA240
pins: A1 VSS, A2 PI6, A3 PI5, A4 PI4, A5 PB5, A6 VDDLDO, A7 VCAP, A8 PK5, A9 PG10, A10 PG9, A11 PD5, A12 PD4, A13 PC10, A14 PA15, A15 PI1, A16 PI0, A17 VSS, B1 VBAT, B2 VSS, B3 PI7, B4 PE1, B5 PB6, B6 VSS, B7 PB4, B8 PK4, B9 PG11, B10 PJ15, B11 PD6, B12 PD3, B13 PC11, B14 PA14, B15 PI2, B16 PH15, B17 PH14, C1 PC15, C2 PC14, C3 PE2, C4 PE0, C5 PB7, C6 PB3, C7 PK6, C8 PK3, C9 PG12, C10 VSS, C11 PD7, C12 PC12, C13 VSS, C14 PI3, C15 PA13, C16 VSS, C17 VDDLDO, D1 PE5, D2 PE4, D3 PE3, D4 PB9, D5 PB8, D6 PG15, D7 PK7, D8 PG14, D9 PG13, D10 PJ14, D11 PJ12, D12 PD2, D13 PD0, D14 PA10, D15 PA9, D16 PH13, D17 VCAP, E1 NC, E2 PI9, E3 PC13, E4 PI8, E5 PE6, E6 VDD, E7 PDR_ON, E8 BOOT0, E9 VDD, E10 PJ13, E11 VDD, E12 PD1, E13 PC8, E14 PC9, E15 PA8, E16 PA12, E17 PA11, F1 VSS, F2 VSS, F3 PI10, F4 PI11, F5 VDD, F13 PC7, F14 PC6, F15 PG8, F16 PG7, F17 VDD33_USB, G1 PF2, G2 VSS, G3 PF1, G4 PF0, G5 VDD, G7 VSS, G8 VSS, G9 VSS, G10 VSS, G11 VSS, G13 VDD, G14 PG5, G15 PG6, G16 VSS, G17 VDD50_USB, H1 PI12, H2 PI13, H3 PI14, H4 PF3, H5 VDD, H7 VSS, H8 VSS, H9 VSS, H10 VSS, H11 VSS, H13 VDD, H14 PG4, H15 PG3, H16 PG2, H17 PK2, J1 PH1, J2 PH0, J3 VSS, J4 PF5, J5 PF4, J7 VSS, J8 VSS, J9 VSS, J10 VSS, J11 VSS, J13 VDD, J14 PK0, J15 PK1, J16 VSS, J17 VSS, K1 NRST, K2 PF6, K3 PF7, K4 PF8, K5 VDD, K7 VSS, K8 VSS, K9 VSS, K10 VSS, K11 VSS, K13 VDD, K14 PJ11, K15 VSS, K16 NC, K17 NC, L1 VDDA, L2 PC0, L3 PF10, L4 PF9, L5 VDD, L7 VSS, L8 VSS, L9 VSS, L10 VSS, L11 VSS, L13 VDD, L14 PJ10, L15 VSS, L16 NC, L17 NC, M1 VREF+, M2 PC1, M3 PC2, M4 PC3, M5 VDD, M13 VDD, M14 PJ9, M15 VSS, M16 NC, M17 NC, N1 VREF-, N2 PH2, N3 PA2, N4 PA1, N5 PA0, N6 PJ0, N7 VDD, N8 VDD, N9 PE10, N10 VDD, N11 VDD, N12 VDD, N13 PJ8, N14 PJ7, N15 PJ6, N16 VSS, N17 NC, P1 VSSA, P2 PH3, P3 PH4, P4 PH5, P5 PI15, P6 PJ1, P7 PF13, P8 PF14, P9 PE9, P10 PE11, P11 PB10, P12 PB11, P13 PH10, P14 PH11, P15 PD15, P16 PD14, P17 VDD, R1 PC2_C, R2 PC3_C, R3 PA6, R4 VSS, R5 PA7, R6 PB2, R7 PF12, R8 VSS, R9 PF15, R10 PE12, R11 PE15, R12 PJ5, R13 PH9, R14 PH12, R15 PD11, R16 PD12, R17 PD13, T1 PA0_C, T2 PA1_C, T3 PA5, T4 PC4, T5 PB1, T6 PJ2, T7 PF11, T8 PG0, T9 PE8, T10 PE13, T11 PH6, T12 VSS, T13 PH8, T14 PB12, T15 PB15, T16 PD10, T17 PD9, U1 VSS, U2 PA3, U3 PA4, U4 PC5, U5 PB0, U6 PJ3, U7 PJ4, U8 PG1, U9 PE7, U10 PE14, U11 VCAP, U12 VDDLDO, U13 PH7, U14 PB13, U15 PB14, U16 PD8, U17 VSS